# Altium schematic symbol library MCU_Texas_MSP430.SchLib: 361 symbols (part 7 of 7)
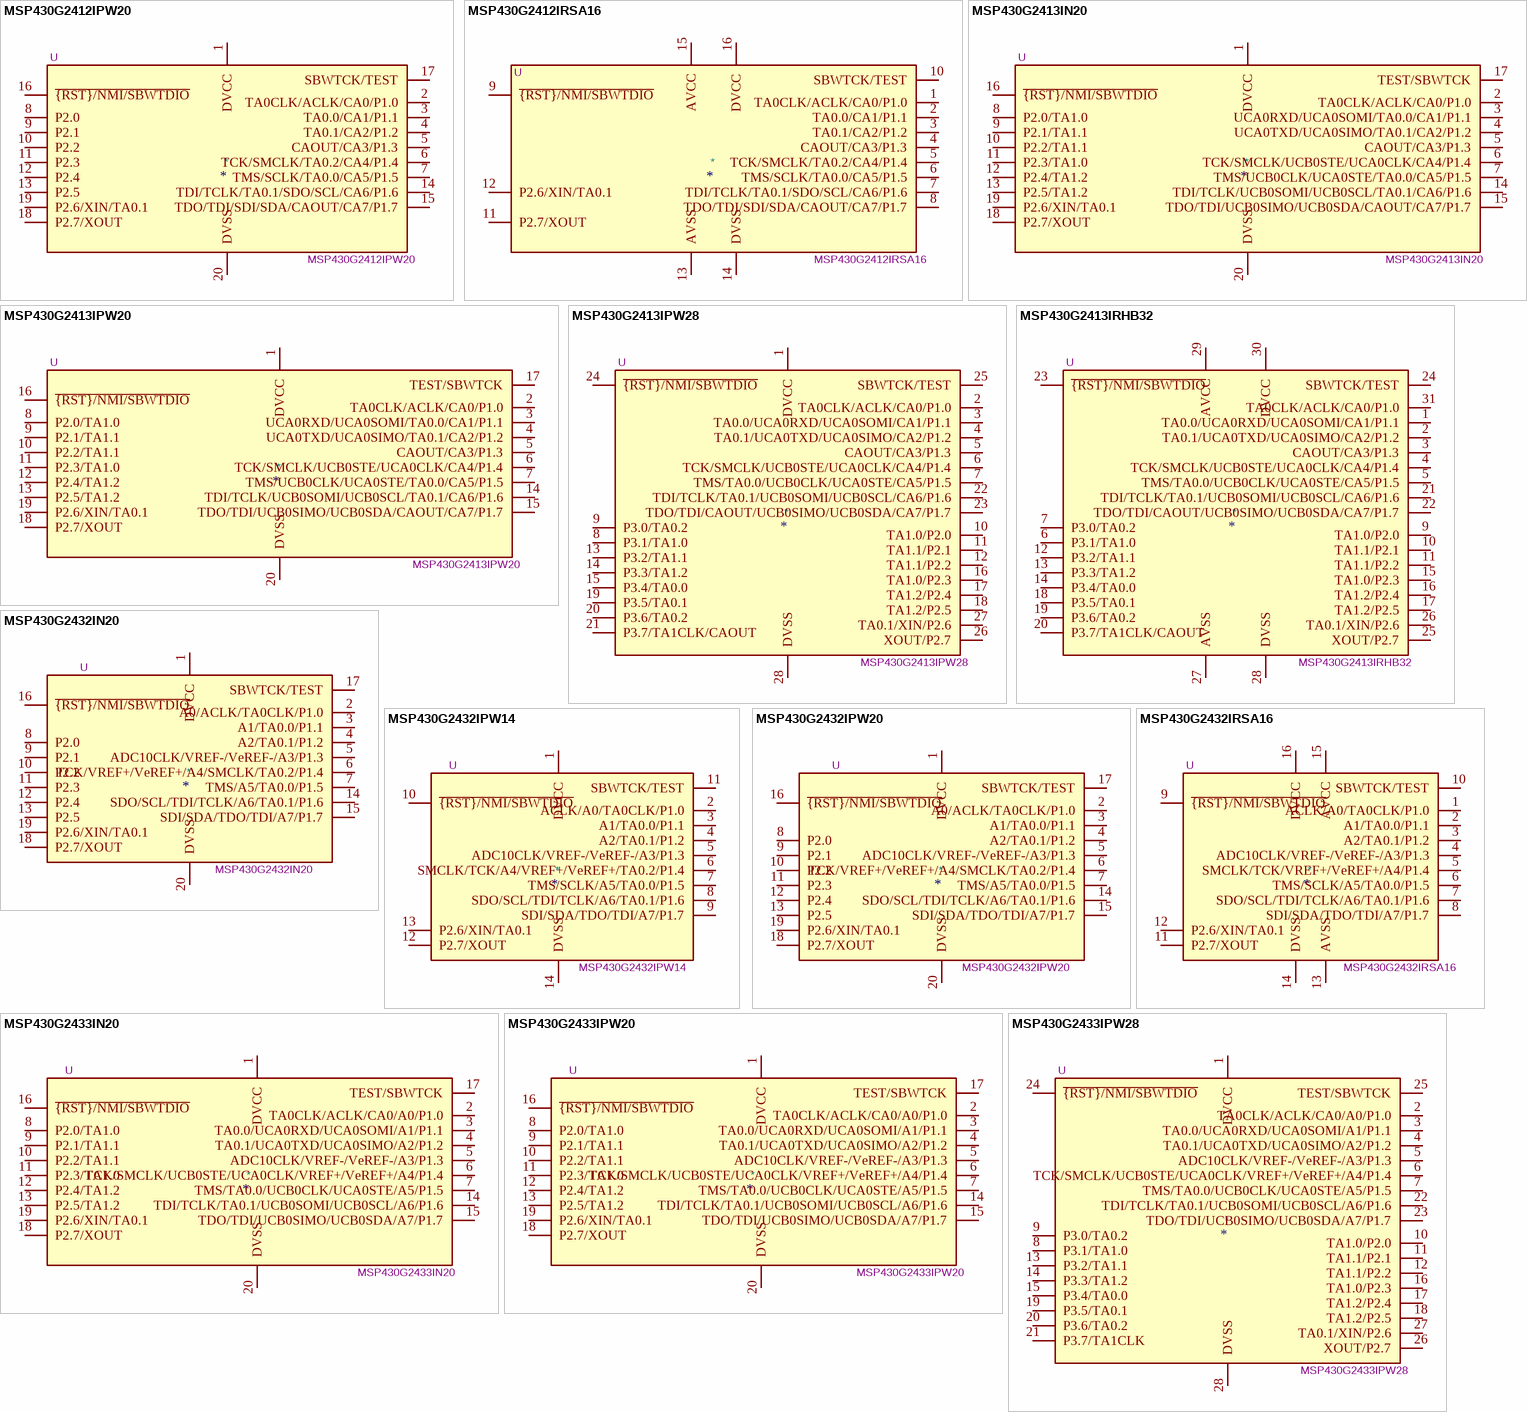
[diagram p40: symbols MSP430G2412IPW20 to MSP430G2433IPW28]

## MSP430G2413IN20
designator *  value MSP430G2413IN20  Reference: U
8kB Flash, 512B RAM, DIP-20; ki_keywords: TI MSP430 16-bit mixed signal microcontroller; ki_fp_filters: DIP*W7.62mm*; Footprint: Package_DIP:DIP-20_W7.62mm; Datasheet: http://www.ti.com/lit/ds/symlink/msp430g2413.pdf; Description_: 8kB Flash, 512B RAM, DIP-20
pins: 1 DVCC, 2 TA0CLK/ACLK/CA0/P1.0, 3 UCA0RXD/UCA0SOMI/TA0.0/CA1/P1.1, 4 UCA0TXD/UCA0SIMO/TA0.1/CA2/P1.2, 5 CAOUT/CA3/P1.3, 6 TCK/SMCLK/UCB0STE/UCA0CLK/CA4/P1.4, 7 TMS/UCB0CLK/UCA0STE/TA0.0/CA5/P1.5, 8 P2.0/TA1.0, 9 P2.1/TA1.1, 10 P2.2/TA1.1, 11 P2.3/TA1.0, 12 P2.4/TA1.2, 13 P2.5/TA1.2, 14 TDI/TCLK/UCB0SOMI/UCB0SCL/TA0.1/CA6/P1.6, 15 TDO/TDI/UCB0SIMO/UCB0SDA/CAOUT/CA7/P1.7, 16 ~{{RST}/NMI/SBWTDIO}, 17 TEST/SBWTCK, 18 P2.7/XOUT, 19 P2.6/XIN/TA0.1, 20 DVSS

## MSP430G2413IPW20
designator *  value MSP430G2413IPW20  Reference: U
8kB Flash, 512B RAM, TSSOP-20; ki_keywords: TI MSP430 16-bit mixed signal microcontroller; ki_fp_filters: TSSOP*4.4x6.5mm*P0.65mm*; Footprint: Package_SO:TSSOP-20_4.4x6.5mm_P0.65mm; Datasheet: http://www.ti.com/lit/ds/symlink/msp430g2413.pdf; Description_: 8kB Flash, 512B RAM, TSSOP-20
pins: 1 DVCC, 2 TA0CLK/ACLK/CA0/P1.0, 3 UCA0RXD/UCA0SOMI/TA0.0/CA1/P1.1, 4 UCA0TXD/UCA0SIMO/TA0.1/CA2/P1.2, 5 CAOUT/CA3/P1.3, 6 TCK/SMCLK/UCB0STE/UCA0CLK/CA4/P1.4, 7 TMS/UCB0CLK/UCA0STE/TA0.0/CA5/P1.5, 8 P2.0/TA1.0, 9 P2.1/TA1.1, 10 P2.2/TA1.1, 11 P2.3/TA1.0, 12 P2.4/TA1.2, 13 P2.5/TA1.2, 14 TDI/TCLK/UCB0SOMI/UCB0SCL/TA0.1/CA6/P1.6, 15 TDO/TDI/UCB0SIMO/UCB0SDA/CAOUT/CA7/P1.7, 16 ~{{RST}/NMI/SBWTDIO}, 17 TEST/SBWTCK, 18 P2.7/XOUT, 19 P2.6/XIN/TA0.1, 20 DVSS

## MSP430G2413IPW28
designator *  value MSP430G2413IPW28  Reference: U
8kB Flash, 512B RAM, TSSOP-28; ki_keywords: TI MSP430 16-bit mixed signal microcontroller; ki_fp_filters: TSSOP*4.4x9.7mm*P0.65mm*; Footprint: Package_SO:TSSOP-28_4.4x9.7mm_P0.65mm; Datasheet: http://www.ti.com/lit/ds/symlink/msp430g2413.pdf; Description_: 8kB Flash, 512B RAM, TSSOP-28
pins: 1 DVCC, 2 TA0CLK/ACLK/CA0/P1.0, 3 TA0.0/UCA0RXD/UCA0SOMI/CA1/P1.1, 4 TA0.1/UCA0TXD/UCA0SIMO/CA2/P1.2, 5 CAOUT/CA3/P1.3, 6 TCK/SMCLK/UCB0STE/UCA0CLK/CA4/P1.4, 7 TMS/TA0.0/UCB0CLK/UCA0STE/CA5/P1.5, 8 P3.1/TA1.0, 9 P3.0/TA0.2, 10 TA1.0/P2.0, 11 TA1.1/P2.1, 12 TA1.1/P2.2, 13 P3.2/TA1.1, 14 P3.3/TA1.2, 15 P3.4/TA0.0, 16 TA1.0/P2.3, 17 TA1.2/P2.4, 18 TA1.2/P2.5, 19 P3.5/TA0.1, 20 P3.6/TA0.2, 21 P3.7/TA1CLK/CAOUT, 22 TDI/TCLK/TA0.1/UCB0SOMI/UCB0SCL/CA6/P1.6, 23 TDO/TDI/CAOUT/UCB0SIMO/UCB0SDA/CA7/P1.7, 24 ~{{RST}/NMI/SBWTDIO}, 25 SBWTCK/TEST, 26 XOUT/P2.7, 27 TA0.1/XIN/P2.6, 28 DVSS

## MSP430G2413IRHB32
designator *  value MSP430G2413IRHB32  Reference: U
8kB Flash, 512B RAM, QFN-32; ki_keywords: TI MSP430 16-bit mixed signal microcontroller; ki_fp_filters: Texas*VQFN*1EP*5x5mm*P0.5mm*; Footprint: Package_DFN_QFN:Texas_RHB0032E_VQFN-32-1EP_5x5mm_P0.5mm_EP3.45x3.45mm; Datasheet: http://www.ti.com/lit/ds/symlink/msp430g2413.pdf; Description_: 8kB Flash, 512B RAM, QFN-32
pins: 1 TA0.0/UCA0RXD/UCA0SOMI/CA1/P1.1, 2 TA0.1/UCA0TXD/UCA0SIMO/CA2/P1.2, 3 CAOUT/CA3/P1.3, 4 TCK/SMCLK/UCB0STE/UCA0CLK/CA4/P1.4, 5 TMS/TA0.0/UCB0CLK/UCA0STE/CA5/P1.5, 6 P3.1/TA1.0, 7 P3.0/TA0.2, 9 TA1.0/P2.0, 10 TA1.1/P2.1, 11 TA1.1/P2.2, 12 P3.2/TA1.1, 13 P3.3/TA1.2, 14 P3.4/TA0.0, 15 TA1.0/P2.3, 16 TA1.2/P2.4, 17 TA1.2/P2.5, 18 P3.5/TA0.1, 19 P3.6/TA0.2, 20 P3.7/TA1CLK/CAOUT, 21 TDI/TCLK/TA0.1/UCB0SOMI/UCB0SCL/CA6/P1.6, 22 TDO/TDI/CAOUT/UCB0SIMO/UCB0SDA/CA7/P1.7, 23 ~{{RST}/NMI/SBWTDIO}, 24 SBWTCK/TEST, 25 XOUT/P2.7, 26 TA0.1/XIN/P2.6, 27 AVSS, 28 DVSS, 29 AVCC, 30 DVCC, 31 TA0CLK/ACLK/CA0/P1.0

## MSP430G2432IN20
designator *  value MSP430G2432IN20  Reference: U
8kB Flash, 256B RAM, DIP-20; ki_keywords: TI MSP430 16-bit mixed signal microcontroller; ki_fp_filters: DIP*W7.62mm*; Footprint: Package_DIP:DIP-20_W7.62mm; Datasheet: http://www.ti.com/lit/ds/symlink/msp430g2432.pdf; Description_: 8kB Flash, 256B RAM, DIP-20
pins: 1 DVCC, 2 A0/ACLK/TA0CLK/P1.0, 3 A1/TA0.0/P1.1, 4 A2/TA0.1/P1.2, 5 ADC10CLK/VREF-/VeREF-/A3/P1.3, 6 TCK/VREF+/VeREF+/A4/SMCLK/TA0.2/P1.4, 7 TMS/A5/TA0.0/P1.5, 8 P2.0, 9 P2.1, 10 P2.2, 11 P2.3, 12 P2.4, 13 P2.5, 14 SDO/SCL/TDI/TCLK/A6/TA0.1/P1.6, 15 SDI/SDA/TDO/TDI/A7/P1.7, 16 ~{{RST}/NMI/SBWTDIO}, 17 SBWTCK/TEST, 18 P2.7/XOUT, 19 P2.6/XIN/TA0.1, 20 DVSS

## MSP430G2432IPW14
designator *  value MSP430G2432IPW14  Reference: U
8kB Flash, 256B RAM, TSSOP-14; ki_keywords: TI MSP430 16-bit mixed signal microcontroller; ki_fp_filters: TSSOP*4.4x5mm*P0.65mm*; Footprint: Package_SO:TSSOP-14_4.4x5mm_P0.65mm; Datasheet: http://www.ti.com/lit/ds/symlink/msp430g2432.pdf; Description_: 8kB Flash, 256B RAM, TSSOP-14
pins: 1 DVCC, 2 ACLK/A0/TA0CLK/P1.0, 3 A1/TA0.0/P1.1, 4 A2/TA0.1/P1.2, 5 ADC10CLK/VREF-/VeREF-/A3/P1.3, 6 SMCLK/TCK/A4/VREF+/VeREF+/TA0.2/P1.4, 7 TMS/SCLK/A5/TA0.0/P1.5, 8 SDO/SCL/TDI/TCLK/A6/TA0.1/P1.6, 9 SDI/SDA/TDO/TDI/A7/P1.7, 10 ~{{RST}/NMI/SBWTDIO}, 11 SBWTCK/TEST, 12 P2.7/XOUT, 13 P2.6/XIN/TA0.1, 14 DVSS

## MSP430G2432IPW20
designator *  value MSP430G2432IPW20  Reference: U
8kB Flash, 256B RAM, TSSOP-20; ki_keywords: TI MSP430 16-bit mixed signal microcontroller; ki_fp_filters: TSSOP*4.4x6.5mm*P0.65mm*; Footprint: Package_SO:TSSOP-20_4.4x6.5mm_P0.65mm; Datasheet: http://www.ti.com/lit/ds/symlink/msp430g2432.pdf; Description_: 8kB Flash, 256B RAM, TSSOP-20
pins: 1 DVCC, 2 A0/ACLK/TA0CLK/P1.0, 3 A1/TA0.0/P1.1, 4 A2/TA0.1/P1.2, 5 ADC10CLK/VREF-/VeREF-/A3/P1.3, 6 TCK/VREF+/VeREF+/A4/SMCLK/TA0.2/P1.4, 7 TMS/A5/TA0.0/P1.5, 8 P2.0, 9 P2.1, 10 P2.2, 11 P2.3, 12 P2.4, 13 P2.5, 14 SDO/SCL/TDI/TCLK/A6/TA0.1/P1.6, 15 SDI/SDA/TDO/TDI/A7/P1.7, 16 ~{{RST}/NMI/SBWTDIO}, 17 SBWTCK/TEST, 18 P2.7/XOUT, 19 P2.6/XIN/TA0.1, 20 DVSS

## MSP430G2432IRSA16
designator *  value MSP430G2432IRSA16  Reference: U
8kB Flash, 256B RAM, QFN-16; ki_keywords: TI MSP430 16-bit mixed signal microcontroller; ki_fp_filters: Texas*RSA*EP2.7x2.7mm*; Footprint: Package_DFN_QFN:Texas_RSA_VQFN-16-1EP_4x4mm_P0.65mm_EP2.7x2.7mm; Datasheet: http://www.ti.com/lit/ds/symlink/msp430g2432.pdf; Description_: 8kB Flash, 256B RAM, QFN-16
pins: 1 ACLK/A0/TA0CLK/P1.0, 2 A1/TA0.0/P1.1, 3 A2/TA0.1/P1.2, 4 ADC10CLK/VREF-/VeREF-/A3/P1.3, 5 SMCLK/TCK/VREF+/VeREF+/A4/P1.4, 6 TMS/SCLK/A5/TA0.0/P1.5, 7 SDO/SCL/TDI/TCLK/A6/TA0.1/P1.6, 8 SDI/SDA/TDO/TDI/A7/P1.7, 9 ~{{RST}/NMI/SBWTDIO}, 10 SBWTCK/TEST, 11 P2.7/XOUT, 12 P2.6/XIN/TA0.1, 13 AVSS, 14 DVSS, 15 AVCC, 16 DVCC

## MSP430G2433IN20
designator *  value MSP430G2433IN20  Reference: U
8kB Flash, 512B RAM, DIP-20; ki_keywords: TI MSP430 16-bit mixed signal microcontroller; ki_fp_filters: DIP*W7.62mm*; Footprint: Package_DIP:DIP-20_W7.62mm; Datasheet: http://www.ti.com/lit/ds/symlink/msp430g2433.pdf; Description_: 8kB Flash, 512B RAM, DIP-20
pins: 1 DVCC, 2 TA0CLK/ACLK/CA0/A0/P1.0, 3 TA0.0/UCA0RXD/UCA0SOMI/A1/P1.1, 4 TA0.1/UCA0TXD/UCA0SIMO/A2/P1.2, 5 ADC10CLK/VREF-/VeREF-/A3/P1.3, 6 TCK/SMCLK/UCB0STE/UCA0CLK/VREF+/VeREF+/A4/P1.4, 7 TMS/TA0.0/UCB0CLK/UCA0STE/A5/P1.5, 8 P2.0/TA1.0, 9 P2.1/TA1.1, 10 P2.2/TA1.1, 11 P2.3/TA1.0, 12 P2.4/TA1.2, 13 P2.5/TA1.2, 14 TDI/TCLK/TA0.1/UCB0SOMI/UCB0SCL/A6/P1.6, 15 TDO/TDI/UCB0SIMO/UCB0SDA/A7/P1.7, 16 ~{{RST}/NMI/SBWTDIO}, 17 TEST/SBWTCK, 18 P2.7/XOUT, 19 P2.6/XIN/TA0.1, 20 DVSS

## MSP430G2433IPW20
designator *  value MSP430G2433IPW20  Reference: U
8kB Flash, 512B RAM, TSSOP-20; ki_keywords: TI MSP430 16-bit mixed signal microcontroller; ki_fp_filters: TSSOP*4.4x6.5mm*P0.65mm*; Footprint: Package_SO:TSSOP-20_4.4x6.5mm_P0.65mm; Datasheet: http://www.ti.com/lit/ds/symlink/msp430g2433.pdf; Description_: 8kB Flash, 512B RAM, TSSOP-20
pins: 1 DVCC, 2 TA0CLK/ACLK/CA0/A0/P1.0, 3 TA0.0/UCA0RXD/UCA0SOMI/A1/P1.1, 4 TA0.1/UCA0TXD/UCA0SIMO/A2/P1.2, 5 ADC10CLK/VREF-/VeREF-/A3/P1.3, 6 TCK/SMCLK/UCB0STE/UCA0CLK/VREF+/VeREF+/A4/P1.4, 7 TMS/TA0.0/UCB0CLK/UCA0STE/A5/P1.5, 8 P2.0/TA1.0, 9 P2.1/TA1.1, 10 P2.2/TA1.1, 11 P2.3/TA1.0, 12 P2.4/TA1.2, 13 P2.5/TA1.2, 14 TDI/TCLK/TA0.1/UCB0SOMI/UCB0SCL/A6/P1.6, 15 TDO/TDI/UCB0SIMO/UCB0SDA/A7/P1.7, 16 ~{{RST}/NMI/SBWTDIO}, 17 TEST/SBWTCK, 18 P2.7/XOUT, 19 P2.6/XIN/TA0.1, 20 DVSS

## MSP430G2433IPW28
designator *  value MSP430G2433IPW28  Reference: U
8kB Flash, 512B RAM, TSSOP-28; ki_keywords: TI MSP430 16-bit mixed signal microcontroller; ki_fp_filters: TSSOP*4.4x9.7mm*P0.65mm*; Footprint: Package_SO:TSSOP-28_4.4x9.7mm_P0.65mm; Datasheet: http://www.ti.com/lit/ds/symlink/msp430g2433.pdf; Description_: 8kB Flash, 512B RAM, TSSOP-28
pins: 1 DVCC, 2 TA0CLK/ACLK/CA0/A0/P1.0, 3 TA0.0/UCA0RXD/UCA0SOMI/A1/P1.1, 4 TA0.1/UCA0TXD/UCA0SIMO/A2/P1.2, 5 ADC10CLK/VREF-/VeREF-/A3/P1.3, 6 TCK/SMCLK/UCB0STE/UCA0CLK/VREF+/VeREF+/A4/P1.4, 7 TMS/TA0.0/UCB0CLK/UCA0STE/A5/P1.5, 8 P3.1/TA1.0, 9 P3.0/TA0.2, 10 TA1.0/P2.0, 11 TA1.1/P2.1, 12 TA1.1/P2.2, 13 P3.2/TA1.1, 14 P3.3/TA1.2, 15 P3.4/TA0.0, 16 TA1.0/P2.3, 17 TA1.2/P2.4, 18 TA1.2/P2.5, 19 P3.5/TA0.1, 20 P3.6/TA0.2, 21 P3.7/TA1CLK, 22 TDI/TCLK/TA0.1/UCB0SOMI/UCB0SCL/A6/P1.6, 23 TDO/TDI/UCB0SIMO/UCB0SDA/A7/P1.7, 24 ~{{RST}/NMI/SBWTDIO}, 25 TEST/SBWTCK, 26 XOUT/P2.7, 27 TA0.1/XIN/P2.6, 28 DVSS

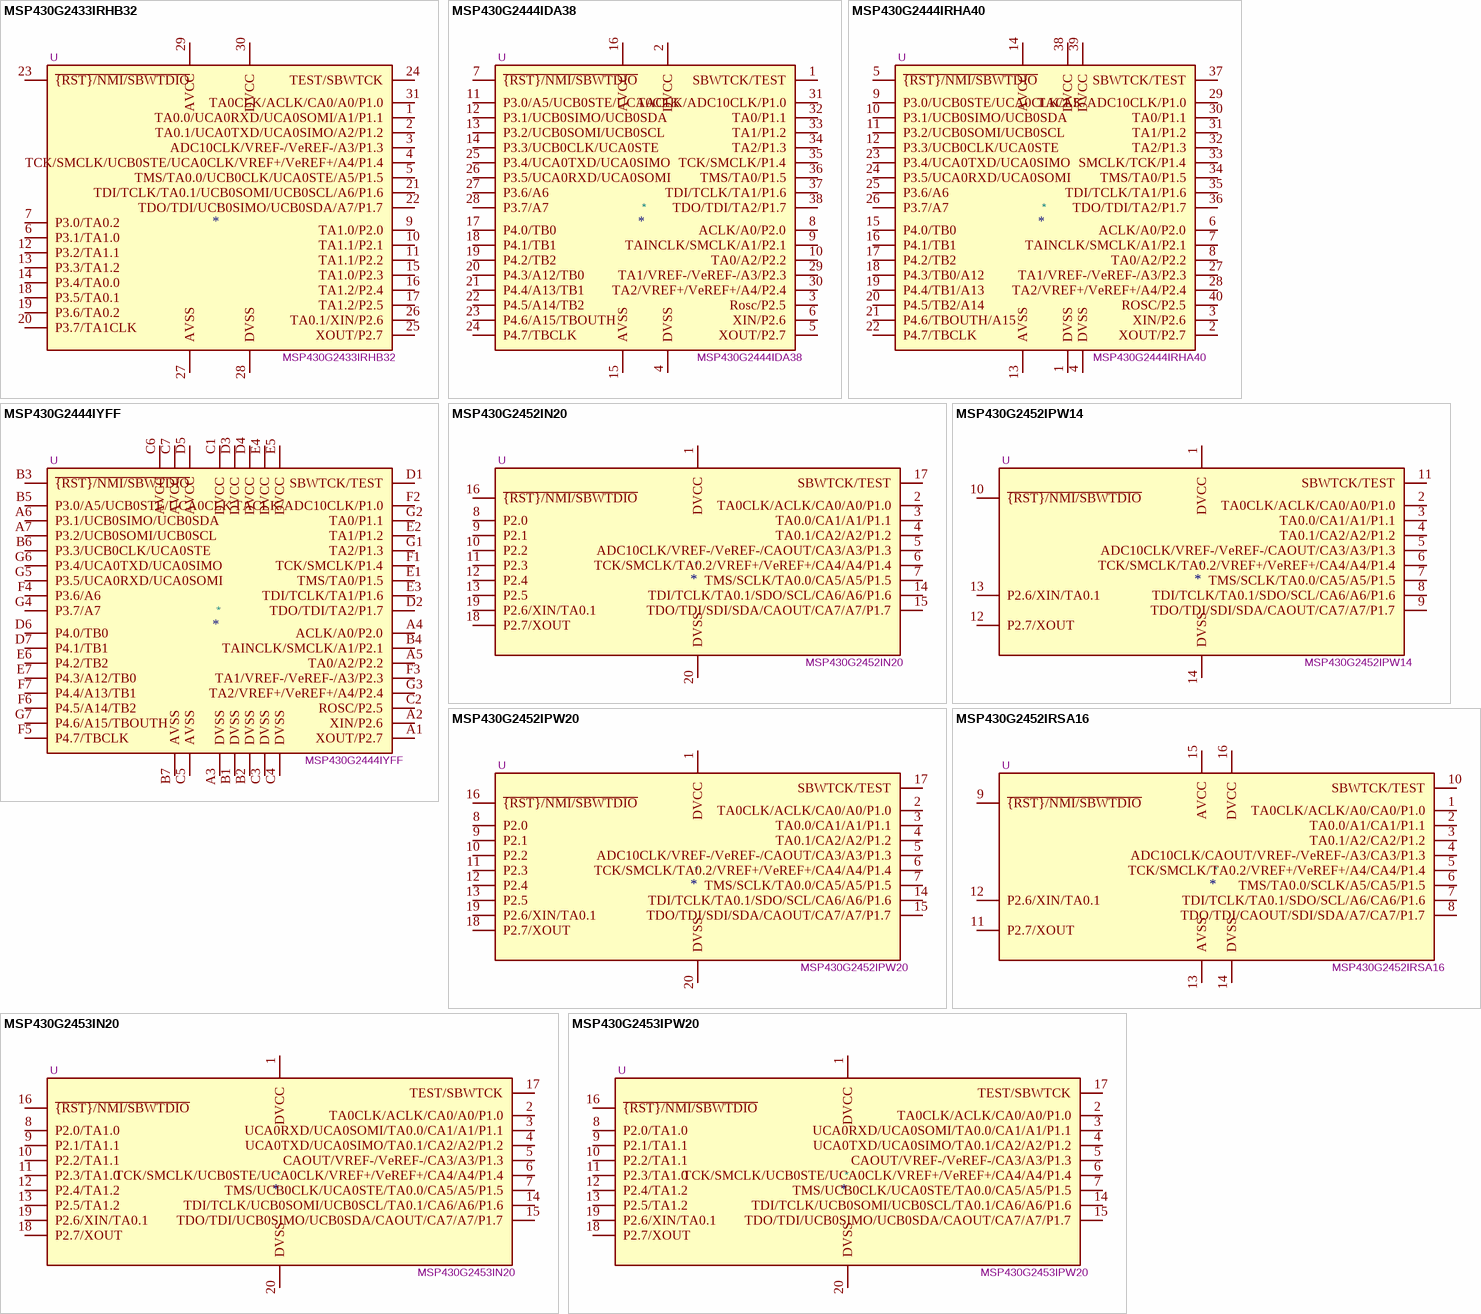
[diagram p31: symbols MSP430G2433IRHB32 to MSP430G2453IPW20]

## MSP430G2433IRHB32
designator *  value MSP430G2433IRHB32  Reference: U
8kB Flash, 512B RAM, QFN-32; ki_keywords: TI MSP430 16-bit mixed signal microcontroller; ki_fp_filters: Texas*VQFN*1EP*5x5mm*P0.5mm*; Footprint: Package_DFN_QFN:Texas_RHB0032E_VQFN-32-1EP_5x5mm_P0.5mm_EP3.45x3.45mm; Datasheet: http://www.ti.com/lit/ds/symlink/msp430g2433.pdf; Description_: 8kB Flash, 512B RAM, QFN-32
pins: 1 TA0.0/UCA0RXD/UCA0SOMI/A1/P1.1, 2 TA0.1/UCA0TXD/UCA0SIMO/A2/P1.2, 3 ADC10CLK/VREF-/VeREF-/A3/P1.3, 4 TCK/SMCLK/UCB0STE/UCA0CLK/VREF+/VeREF+/A4/P1.4, 5 TMS/TA0.0/UCB0CLK/UCA0STE/A5/P1.5, 6 P3.1/TA1.0, 7 P3.0/TA0.2, 9 TA1.0/P2.0, 10 TA1.1/P2.1, 11 TA1.1/P2.2, 12 P3.2/TA1.1, 13 P3.3/TA1.2, 14 P3.4/TA0.0, 15 TA1.0/P2.3, 16 TA1.2/P2.4, 17 TA1.2/P2.5, 18 P3.5/TA0.1, 19 P3.6/TA0.2, 20 P3.7/TA1CLK, 21 TDI/TCLK/TA0.1/UCB0SOMI/UCB0SCL/A6/P1.6, 22 TDO/TDI/UCB0SIMO/UCB0SDA/A7/P1.7, 23 ~{{RST}/NMI/SBWTDIO}, 24 TEST/SBWTCK, 25 XOUT/P2.7, 26 TA0.1/XIN/P2.6, 27 AVSS, 28 DVSS, 29 AVCC, 30 DVCC, 31 TA0CLK/ACLK/CA0/A0/P1.0

## MSP430G2444IDA38
designator *  value MSP430G2444IDA38  Reference: U
8kB + 256B Flash, 512B RAM, TSSOP-38; ki_keywords: TI MSP430 16-bit mixed signal microcontroller; ki_fp_filters: TSSOP*6.1x12.5mm*P0.65mm*; Footprint: Package_SO:TSSOP-38_6.1x12.5mm_P0.65mm; Datasheet: http://www.ti.com/lit/ds/symlink/msp430g2444.pdf; Description_: 8kB + 256B Flash, 512B RAM, TSSOP-38
pins: 1 SBWTCK/TEST, 2 DVCC, 3 Rosc/P2.5, 4 DVSS, 5 XOUT/P2.7, 6 XIN/P2.6, 7 ~{{RST}/NMI/SBWTDIO}, 8 ACLK/A0/P2.0, 9 TAINCLK/SMCLK/A1/P2.1, 10 TA0/A2/P2.2, 11 P3.0/A5/UCB0STE/UCA0CLK, 12 P3.1/UCB0SIMO/UCB0SDA, 13 P3.2/UCB0SOMI/UCB0SCL, 14 P3.3/UCB0CLK/UCA0STE, 15 AVSS, 16 AVCC, 17 P4.0/TB0, 18 P4.1/TB1, 19 P4.2/TB2, 20 P4.3/A12/TB0, 21 P4.4/A13/TB1, 22 P4.5/A14/TB2, 23 P4.6/A15/TBOUTH, 24 P4.7/TBCLK, 25 P3.4/UCA0TXD/UCA0SIMO, 26 P3.5/UCA0RXD/UCA0SOMI, 27 P3.6/A6, 28 P3.7/A7, 29 TA1/VREF-/VeREF-/A3/P2.3, 30 TA2/VREF+/VeREF+/A4/P2.4, 31 TACLK/ADC10CLK/P1.0, 32 TA0/P1.1, 33 TA1/P1.2, 34 TA2/P1.3, 35 TCK/SMCLK/P1.4, 36 TMS/TA0/P1.5, 37 TDI/TCLK/TA1/P1.6, 38 TDO/TDI/TA2/P1.7

## MSP430G2444IRHA40
designator *  value MSP430G2444IRHA40  Reference: U
8kB + 256B Flash, 512B RAM, QFN-40; ki_keywords: TI MSP430 16-bit mixed signal microcontroller; ki_fp_filters: Texas*RHA0040B*; Footprint: Package_DFN_QFN:Texas_RHA0040B_VQFN-40-1EP_6x6mm_P0.5mm_EP4.15x4.15mm; Datasheet: http://www.ti.com/lit/ds/symlink/msp430g2444.pdf; Description_: 8kB + 256B Flash, 512B RAM, QFN-40
pins: 1 DVSS, 2 XOUT/P2.7, 3 XIN/P2.6, 4 DVSS, 5 ~{{RST}/NMI/SBWTDIO}, 6 ACLK/A0/P2.0, 7 TAINCLK/SMCLK/A1/P2.1, 8 TA0/A2/P2.2, 9 P3.0/UCB0STE/UCA0CLK/A5, 10 P3.1/UCB0SIMO/UCB0SDA, 11 P3.2/UCB0SOMI/UCB0SCL, 12 P3.3/UCB0CLK/UCA0STE, 13 AVSS, 14 AVCC, 15 P4.0/TB0, 16 P4.1/TB1, 17 P4.2/TB2, 18 P4.3/TB0/A12, 19 P4.4/TB1/A13, 20 P4.5/TB2/A14, 21 P4.6/TBOUTH/A15, 22 P4.7/TBCLK, 23 P3.4/UCA0TXD/UCA0SIMO, 24 P3.5/UCA0RXD/UCA0SOMI, 25 P3.6/A6, 26 P3.7/A7, 27 TA1/VREF-/VeREF-/A3/P2.3, 28 TA2/VREF+/VeREF+/A4/P2.4, 29 TACLK/ADC10CLK/P1.0, 30 TA0/P1.1, 31 TA1/P1.2, 32 TA2/P1.3, 33 SMCLK/TCK/P1.4, 34 TMS/TA0/P1.5, 35 TDI/TCLK/TA1/P1.6, 36 TDO/TDI/TA2/P1.7, 37 SBWTCK/TEST, 38 DVCC, 39 DVCC, 40 ROSC/P2.5

## MSP430G2444IYFF
designator *  value MSP430G2444IYFF  Reference: U
8kB + 256B Flash, 512B RAM, BGA-49; ki_keywords: TI MSP430 16-bit mixed signal microcontroller; ki_fp_filters: Texas*DSBGA*3.33x3.488mm*Layout7x7*P0.4mm*; Footprint: Package_BGA:Texas_DSBGA-49_3.33x3.488mm_Layout7x7_P0.4mm; Datasheet: http://www.ti.com/lit/ds/symlink/msp430g2444.pdf; Description_: 8kB + 256B Flash, 512B RAM, BGA-49
pins: A1 XOUT/P2.7, A2 XIN/P2.6, A3 DVSS, A4 ACLK/A0/P2.0, A5 TA0/A2/P2.2, A6 P3.1/UCB0SIMO/UCB0SDA, A7 P3.2/UCB0SOMI/UCB0SCL, B1 DVSS, B2 DVSS, B3 ~{{RST}/NMI/SBWTDIO}, B4 TAINCLK/SMCLK/A1/P2.1, B5 P3.0/A5/UCB0STE/UCA0CLK, B6 P3.3/UCB0CLK/UCA0STE, B7 AVSS, C1 DVCC, C2 ROSC/P2.5, C3 DVSS, C4 DVSS, C5 AVSS, C6 AVCC, C7 AVCC, D1 SBWTCK/TEST, D2 TDO/TDI/TA2/P1.7, D3 DVCC, D4 DVCC, D5 AVCC, D6 P4.0/TB0, D7 P4.1/TB1, E1 TMS/TA0/P1.5, E2 TA1/P1.2, E3 TDI/TCLK/TA1/P1.6, E4 DVCC, E5 DVCC, E6 P4.2/TB2, E7 P4.3/A12/TB0, F1 TCK/SMCLK/P1.4, F2 TACLK/ADC10CLK/P1.0, F3 TA1/VREF-/VeREF-/A3/P2.3, F4 P3.6/A6, F5 P4.7/TBCLK, F6 P4.5/A14/TB2, F7 P4.4/A13/TB1, G1 TA2/P1.3, G2 TA0/P1.1, G3 TA2/VREF+/VeREF+/A4/P2.4, G4 P3.7/A7, G5 P3.5/UCA0RXD/UCA0SOMI, G6 P3.4/UCA0TXD/UCA0SIMO, G7 P4.6/A15/TBOUTH

## MSP430G2452IN20
designator *  value MSP430G2452IN20  Reference: U
8kB Flash, 256B RAM, DIP-20; ki_keywords: TI MSP430 16-bit mixed signal microcontroller; ki_fp_filters: DIP*W7.62mm*; Footprint: Package_DIP:DIP-20_W7.62mm; Datasheet: http://www.ti.com/lit/ds/symlink/msp430g2452.pdf; Description_: 8kB Flash, 256B RAM, DIP-20
pins: 1 DVCC, 2 TA0CLK/ACLK/CA0/A0/P1.0, 3 TA0.0/CA1/A1/P1.1, 4 TA0.1/CA2/A2/P1.2, 5 ADC10CLK/VREF-/VeREF-/CAOUT/CA3/A3/P1.3, 6 TCK/SMCLK/TA0.2/VREF+/VeREF+/CA4/A4/P1.4, 7 TMS/SCLK/TA0.0/CA5/A5/P1.5, 8 P2.0, 9 P2.1, 10 P2.2, 11 P2.3, 12 P2.4, 13 P2.5, 14 TDI/TCLK/TA0.1/SDO/SCL/CA6/A6/P1.6, 15 TDO/TDI/SDI/SDA/CAOUT/CA7/A7/P1.7, 16 ~{{RST}/NMI/SBWTDIO}, 17 SBWTCK/TEST, 18 P2.7/XOUT, 19 P2.6/XIN/TA0.1, 20 DVSS

## MSP430G2452IPW14
designator *  value MSP430G2452IPW14  Reference: U
8kB Flash, 256B RAM, TSSOP-14; ki_keywords: TI MSP430 16-bit mixed signal microcontroller; ki_fp_filters: TSSOP*4.4x5mm*P0.65mm*; Footprint: Package_SO:TSSOP-14_4.4x5mm_P0.65mm; Datasheet: http://www.ti.com/lit/ds/symlink/msp430g2452.pdf; Description_: 8kB Flash, 256B RAM, TSSOP-14
pins: 1 DVCC, 2 TA0CLK/ACLK/CA0/A0/P1.0, 3 TA0.0/CA1/A1/P1.1, 4 TA0.1/CA2/A2/P1.2, 5 ADC10CLK/VREF-/VeREF-/CAOUT/CA3/A3/P1.3, 6 TCK/SMCLK/TA0.2/VREF+/VeREF+/CA4/A4/P1.4, 7 TMS/SCLK/TA0.0/CA5/A5/P1.5, 8 TDI/TCLK/TA0.1/SDO/SCL/CA6/A6/P1.6, 9 TDO/TDI/SDI/SDA/CAOUT/CA7/A7/P1.7, 10 ~{{RST}/NMI/SBWTDIO}, 11 SBWTCK/TEST, 12 P2.7/XOUT, 13 P2.6/XIN/TA0.1, 14 DVSS

## MSP430G2452IPW20
designator *  value MSP430G2452IPW20  Reference: U
8kB Flash, 256B RAM, TSSOP-20; ki_keywords: TI MSP430 16-bit mixed signal microcontroller; ki_fp_filters: TSSOP*4.4x6.5mm*P0.65mm*; Footprint: Package_SO:TSSOP-20_4.4x6.5mm_P0.65mm; Datasheet: http://www.ti.com/lit/ds/symlink/msp430g2452.pdf; Description_: 8kB Flash, 256B RAM, TSSOP-20
pins: 1 DVCC, 2 TA0CLK/ACLK/CA0/A0/P1.0, 3 TA0.0/CA1/A1/P1.1, 4 TA0.1/CA2/A2/P1.2, 5 ADC10CLK/VREF-/VeREF-/CAOUT/CA3/A3/P1.3, 6 TCK/SMCLK/TA0.2/VREF+/VeREF+/CA4/A4/P1.4, 7 TMS/SCLK/TA0.0/CA5/A5/P1.5, 8 P2.0, 9 P2.1, 10 P2.2, 11 P2.3, 12 P2.4, 13 P2.5, 14 TDI/TCLK/TA0.1/SDO/SCL/CA6/A6/P1.6, 15 TDO/TDI/SDI/SDA/CAOUT/CA7/A7/P1.7, 16 ~{{RST}/NMI/SBWTDIO}, 17 SBWTCK/TEST, 18 P2.7/XOUT, 19 P2.6/XIN/TA0.1, 20 DVSS

## MSP430G2452IRSA16
designator *  value MSP430G2452IRSA16  Reference: U
8kB Flash, 256B RAM, QFN-16; ki_keywords: TI MSP430 16-bit mixed signal microcontroller; ki_fp_filters: Texas*RSA*EP2.7x2.7mm*; Footprint: Package_DFN_QFN:Texas_RSA_VQFN-16-1EP_4x4mm_P0.65mm_EP2.7x2.7mm; Datasheet: http://www.ti.com/lit/ds/symlink/msp430g2452.pdf; Description_: 8kB Flash, 256B RAM, QFN-16
pins: 1 TA0CLK/ACLK/A0/CA0/P1.0, 2 TA0.0/A1/CA1/P1.1, 3 TA0.1/A2/CA2/P1.2, 4 ADC10CLK/CAOUT/VREF-/VeREF-/A3/CA3/P1.3, 5 TCK/SMCLK/TA0.2/VREF+/VeREF+/A4/CA4/P1.4, 6 TMS/TA0.0/SCLK/A5/CA5/P1.5, 7 TDI/TCLK/TA0.1/SDO/SCL/A6/CA6/P1.6, 8 TDO/TDI/CAOUT/SDI/SDA/A7/CA7/P1.7, 9 ~{{RST}/NMI/SBWTDIO}, 10 SBWTCK/TEST, 11 P2.7/XOUT, 12 P2.6/XIN/TA0.1, 13 AVSS, 14 DVSS, 15 AVCC, 16 DVCC

## MSP430G2453IN20
designator *  value MSP430G2453IN20  Reference: U
8kB Flash, 512B RAM, DIP-20; ki_keywords: TI MSP430 16-bit mixed signal microcontroller; ki_fp_filters: DIP*W7.62mm*; Footprint: Package_DIP:DIP-20_W7.62mm; Datasheet: http://www.ti.com/lit/ds/symlink/msp430g2453.pdf; Description_: 8kB Flash, 512B RAM, DIP-20
pins: 1 DVCC, 2 TA0CLK/ACLK/CA0/A0/P1.0, 3 UCA0RXD/UCA0SOMI/TA0.0/CA1/A1/P1.1, 4 UCA0TXD/UCA0SIMO/TA0.1/CA2/A2/P1.2, 5 CAOUT/VREF-/VeREF-/CA3/A3/P1.3, 6 TCK/SMCLK/UCB0STE/UCA0CLK/VREF+/VeREF+/CA4/A4/P1.4, 7 TMS/UCB0CLK/UCA0STE/TA0.0/CA5/A5/P1.5, 8 P2.0/TA1.0, 9 P2.1/TA1.1, 10 P2.2/TA1.1, 11 P2.3/TA1.0, 12 P2.4/TA1.2, 13 P2.5/TA1.2, 14 TDI/TCLK/UCB0SOMI/UCB0SCL/TA0.1/CA6/A6/P1.6, 15 TDO/TDI/UCB0SIMO/UCB0SDA/CAOUT/CA7/A7/P1.7, 16 ~{{RST}/NMI/SBWTDIO}, 17 TEST/SBWTCK, 18 P2.7/XOUT, 19 P2.6/XIN/TA0.1, 20 DVSS

## MSP430G2453IPW20
designator *  value MSP430G2453IPW20  Reference: U
8kB Flash, 512B RAM, TSSOP-20; ki_keywords: TI MSP430 16-bit mixed signal microcontroller; ki_fp_filters: TSSOP*4.4x6.5mm*P0.65mm*; Footprint: Package_SO:TSSOP-20_4.4x6.5mm_P0.65mm; Datasheet: http://www.ti.com/lit/ds/symlink/msp430g2453.pdf; Description_: 8kB Flash, 512B RAM, TSSOP-20
pins: 1 DVCC, 2 TA0CLK/ACLK/CA0/A0/P1.0, 3 UCA0RXD/UCA0SOMI/TA0.0/CA1/A1/P1.1, 4 UCA0TXD/UCA0SIMO/TA0.1/CA2/A2/P1.2, 5 CAOUT/VREF-/VeREF-/CA3/A3/P1.3, 6 TCK/SMCLK/UCB0STE/UCA0CLK/VREF+/VeREF+/CA4/A4/P1.4, 7 TMS/UCB0CLK/UCA0STE/TA0.0/CA5/A5/P1.5, 8 P2.0/TA1.0, 9 P2.1/TA1.1, 10 P2.2/TA1.1, 11 P2.3/TA1.0, 12 P2.4/TA1.2, 13 P2.5/TA1.2, 14 TDI/TCLK/UCB0SOMI/UCB0SCL/TA0.1/CA6/A6/P1.6, 15 TDO/TDI/UCB0SIMO/UCB0SDA/CAOUT/CA7/A7/P1.7, 16 ~{{RST}/NMI/SBWTDIO}, 17 TEST/SBWTCK, 18 P2.7/XOUT, 19 P2.6/XIN/TA0.1, 20 DVSS

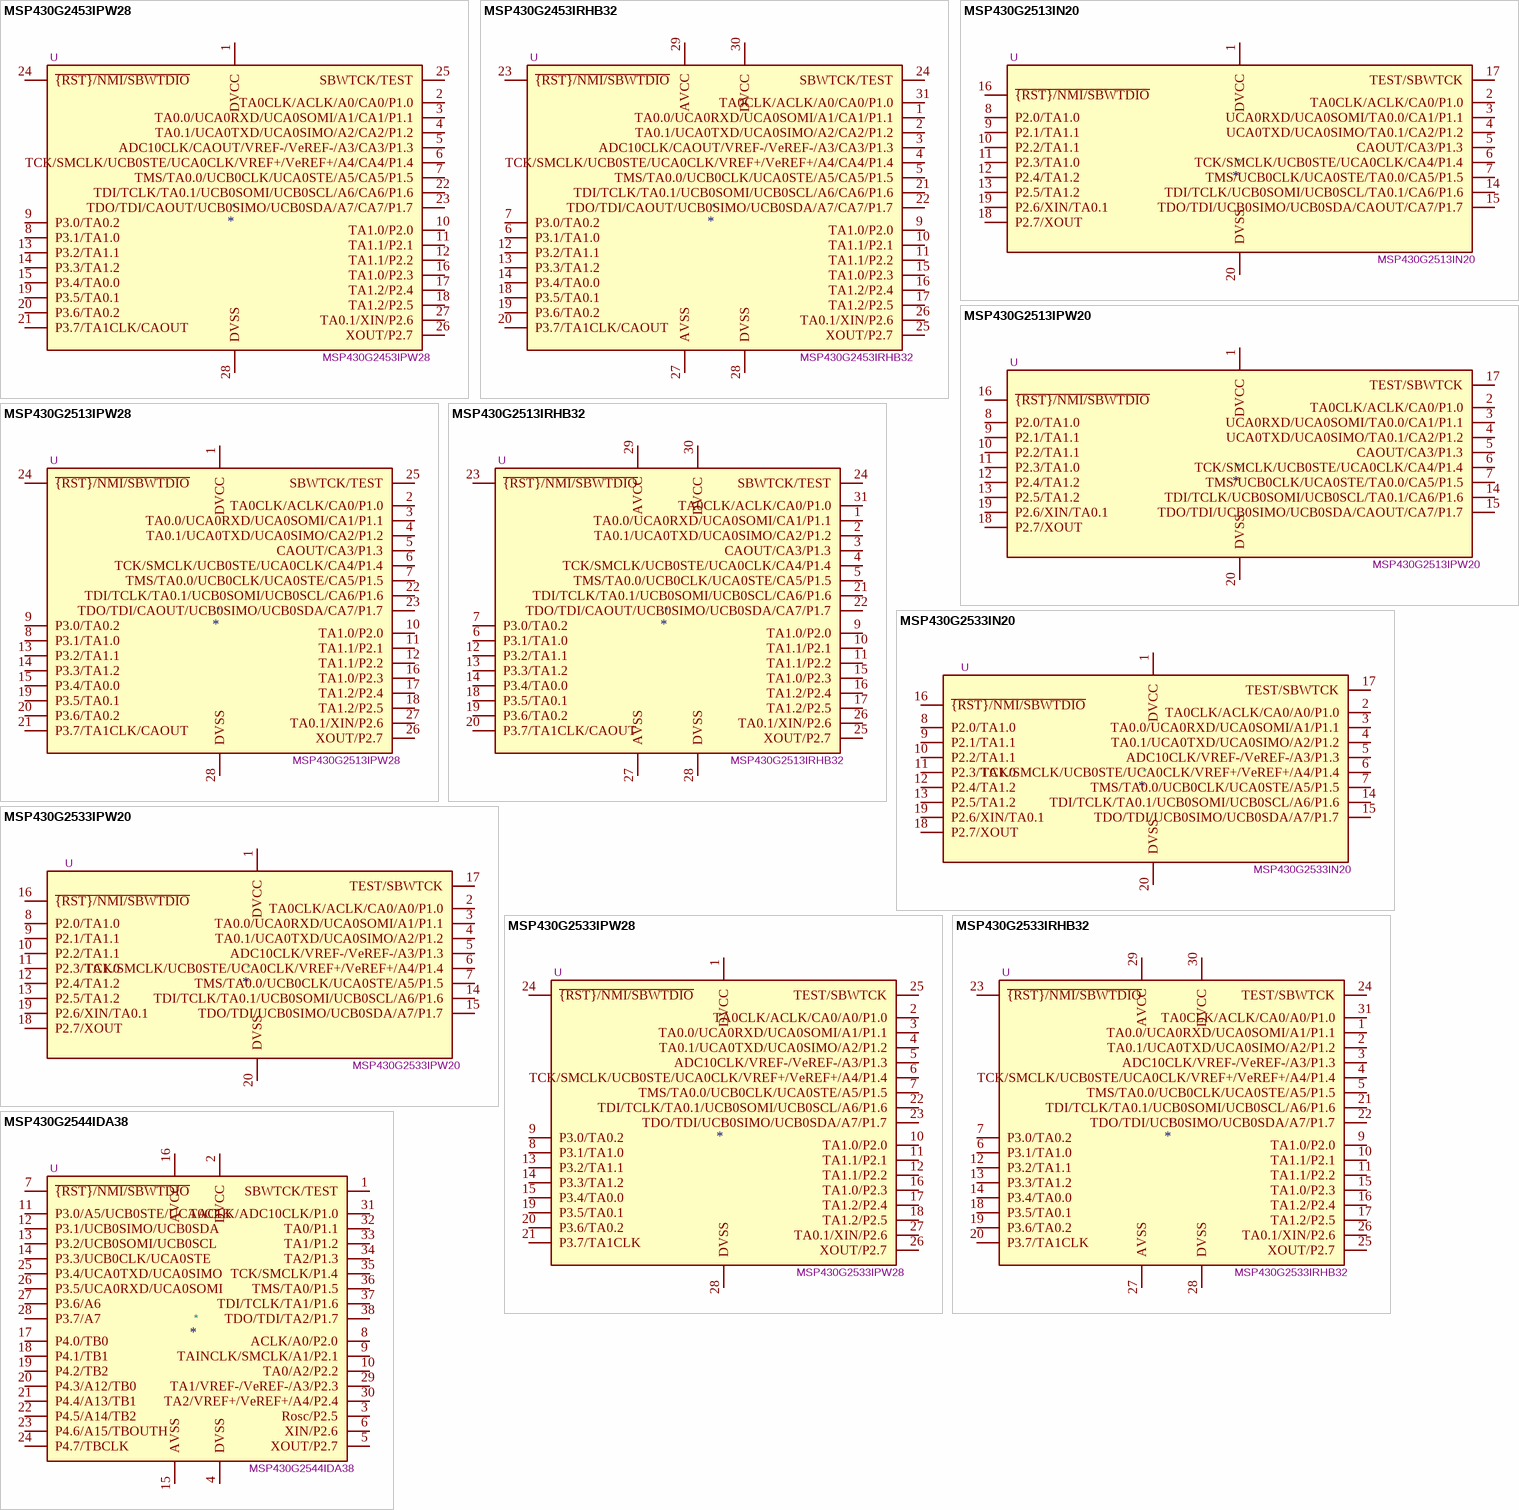
[diagram p32: symbols MSP430G2453IPW28 to MSP430G2544IDA38]

## MSP430G2453IPW28
designator *  value MSP430G2453IPW28  Reference: U
8kB Flash, 512B RAM, TSSOP-28; ki_keywords: TI MSP430 16-bit mixed signal microcontroller; ki_fp_filters: TSSOP*4.4x9.7mm*P0.65mm*; Footprint: Package_SO:TSSOP-28_4.4x9.7mm_P0.65mm; Datasheet: http://www.ti.com/lit/ds/symlink/msp430g2453.pdf; Description_: 8kB Flash, 512B RAM, TSSOP-28
pins: 1 DVCC, 2 TA0CLK/ACLK/A0/CA0/P1.0, 3 TA0.0/UCA0RXD/UCA0SOMI/A1/CA1/P1.1, 4 TA0.1/UCA0TXD/UCA0SIMO/A2/CA2/P1.2, 5 ADC10CLK/CAOUT/VREF-/VeREF-/A3/CA3/P1.3, 6 TCK/SMCLK/UCB0STE/UCA0CLK/VREF+/VeREF+/A4/CA4/P1.4, 7 TMS/TA0.0/UCB0CLK/UCA0STE/A5/CA5/P1.5, 8 P3.1/TA1.0, 9 P3.0/TA0.2, 10 TA1.0/P2.0, 11 TA1.1/P2.1, 12 TA1.1/P2.2, 13 P3.2/TA1.1, 14 P3.3/TA1.2, 15 P3.4/TA0.0, 16 TA1.0/P2.3, 17 TA1.2/P2.4, 18 TA1.2/P2.5, 19 P3.5/TA0.1, 20 P3.6/TA0.2, 21 P3.7/TA1CLK/CAOUT, 22 TDI/TCLK/TA0.1/UCB0SOMI/UCB0SCL/A6/CA6/P1.6, 23 TDO/TDI/CAOUT/UCB0SIMO/UCB0SDA/A7/CA7/P1.7, 24 ~{{RST}/NMI/SBWTDIO}, 25 SBWTCK/TEST, 26 XOUT/P2.7, 27 TA0.1/XIN/P2.6, 28 DVSS

## MSP430G2453IRHB32
designator *  value MSP430G2453IRHB32  Reference: U
8kB Flash, 512B RAM, QFN-32; ki_keywords: TI MSP430 16-bit mixed signal microcontroller; ki_fp_filters: Texas*VQFN*1EP*5x5mm*P0.5mm*; Footprint: Package_DFN_QFN:Texas_RHB0032E_VQFN-32-1EP_5x5mm_P0.5mm_EP3.45x3.45mm; Datasheet: http://www.ti.com/lit/ds/symlink/msp430g2453.pdf; Description_: 8kB Flash, 512B RAM, QFN-32
pins: 1 TA0.0/UCA0RXD/UCA0SOMI/A1/CA1/P1.1, 2 TA0.1/UCA0TXD/UCA0SIMO/A2/CA2/P1.2, 3 ADC10CLK/CAOUT/VREF-/VeREF-/A3/CA3/P1.3, 4 TCK/SMCLK/UCB0STE/UCA0CLK/VREF+/VeREF+/A4/CA4/P1.4, 5 TMS/TA0.0/UCB0CLK/UCA0STE/A5/CA5/P1.5, 6 P3.1/TA1.0, 7 P3.0/TA0.2, 9 TA1.0/P2.0, 10 TA1.1/P2.1, 11 TA1.1/P2.2, 12 P3.2/TA1.1, 13 P3.3/TA1.2, 14 P3.4/TA0.0, 15 TA1.0/P2.3, 16 TA1.2/P2.4, 17 TA1.2/P2.5, 18 P3.5/TA0.1, 19 P3.6/TA0.2, 20 P3.7/TA1CLK/CAOUT, 21 TDI/TCLK/TA0.1/UCB0SOMI/UCB0SCL/A6/CA6/P1.6, 22 TDO/TDI/CAOUT/UCB0SIMO/UCB0SDA/A7/CA7/P1.7, 23 ~{{RST}/NMI/SBWTDIO}, 24 SBWTCK/TEST, 25 XOUT/P2.7, 26 TA0.1/XIN/P2.6, 27 AVSS, 28 DVSS, 29 AVCC, 30 DVCC, 31 TA0CLK/ACLK/A0/CA0/P1.0

## MSP430G2513IN20
designator *  value MSP430G2513IN20  Reference: U
16kB Flash, 512B RAM, DIP-20; ki_keywords: TI MSP430 16-bit mixed signal microcontroller; ki_fp_filters: DIP*W7.62mm*; Footprint: Package_DIP:DIP-20_W7.62mm; Datasheet: http://www.ti.com/lit/ds/symlink/msp430g2513.pdf; Description_: 16kB Flash, 512B RAM, DIP-20
pins: 1 DVCC, 2 TA0CLK/ACLK/CA0/P1.0, 3 UCA0RXD/UCA0SOMI/TA0.0/CA1/P1.1, 4 UCA0TXD/UCA0SIMO/TA0.1/CA2/P1.2, 5 CAOUT/CA3/P1.3, 6 TCK/SMCLK/UCB0STE/UCA0CLK/CA4/P1.4, 7 TMS/UCB0CLK/UCA0STE/TA0.0/CA5/P1.5, 8 P2.0/TA1.0, 9 P2.1/TA1.1, 10 P2.2/TA1.1, 11 P2.3/TA1.0, 12 P2.4/TA1.2, 13 P2.5/TA1.2, 14 TDI/TCLK/UCB0SOMI/UCB0SCL/TA0.1/CA6/P1.6, 15 TDO/TDI/UCB0SIMO/UCB0SDA/CAOUT/CA7/P1.7, 16 ~{{RST}/NMI/SBWTDIO}, 17 TEST/SBWTCK, 18 P2.7/XOUT, 19 P2.6/XIN/TA0.1, 20 DVSS

## MSP430G2513IPW20
designator *  value MSP430G2513IPW20  Reference: U
16kB Flash, 512B RAM, TSSOP-20; ki_keywords: TI MSP430 16-bit mixed signal microcontroller; ki_fp_filters: TSSOP*4.4x6.5mm*P0.65mm*; Footprint: Package_SO:TSSOP-20_4.4x6.5mm_P0.65mm; Datasheet: http://www.ti.com/lit/ds/symlink/msp430g2513.pdf; Description_: 16kB Flash, 512B RAM, TSSOP-20
pins: 1 DVCC, 2 TA0CLK/ACLK/CA0/P1.0, 3 UCA0RXD/UCA0SOMI/TA0.0/CA1/P1.1, 4 UCA0TXD/UCA0SIMO/TA0.1/CA2/P1.2, 5 CAOUT/CA3/P1.3, 6 TCK/SMCLK/UCB0STE/UCA0CLK/CA4/P1.4, 7 TMS/UCB0CLK/UCA0STE/TA0.0/CA5/P1.5, 8 P2.0/TA1.0, 9 P2.1/TA1.1, 10 P2.2/TA1.1, 11 P2.3/TA1.0, 12 P2.4/TA1.2, 13 P2.5/TA1.2, 14 TDI/TCLK/UCB0SOMI/UCB0SCL/TA0.1/CA6/P1.6, 15 TDO/TDI/UCB0SIMO/UCB0SDA/CAOUT/CA7/P1.7, 16 ~{{RST}/NMI/SBWTDIO}, 17 TEST/SBWTCK, 18 P2.7/XOUT, 19 P2.6/XIN/TA0.1, 20 DVSS

## MSP430G2513IPW28
designator *  value MSP430G2513IPW28  Reference: U
16kB Flash, 512B RAM, TSSOP-28; ki_keywords: TI MSP430 16-bit mixed signal microcontroller; ki_fp_filters: TSSOP*4.4x9.7mm*P0.65mm*; Footprint: Package_SO:TSSOP-28_4.4x9.7mm_P0.65mm; Datasheet: http://www.ti.com/lit/ds/symlink/msp430g2513.pdf; Description_: 16kB Flash, 512B RAM, TSSOP-28
pins: 1 DVCC, 2 TA0CLK/ACLK/CA0/P1.0, 3 TA0.0/UCA0RXD/UCA0SOMI/CA1/P1.1, 4 TA0.1/UCA0TXD/UCA0SIMO/CA2/P1.2, 5 CAOUT/CA3/P1.3, 6 TCK/SMCLK/UCB0STE/UCA0CLK/CA4/P1.4, 7 TMS/TA0.0/UCB0CLK/UCA0STE/CA5/P1.5, 8 P3.1/TA1.0, 9 P3.0/TA0.2, 10 TA1.0/P2.0, 11 TA1.1/P2.1, 12 TA1.1/P2.2, 13 P3.2/TA1.1, 14 P3.3/TA1.2, 15 P3.4/TA0.0, 16 TA1.0/P2.3, 17 TA1.2/P2.4, 18 TA1.2/P2.5, 19 P3.5/TA0.1, 20 P3.6/TA0.2, 21 P3.7/TA1CLK/CAOUT, 22 TDI/TCLK/TA0.1/UCB0SOMI/UCB0SCL/CA6/P1.6, 23 TDO/TDI/CAOUT/UCB0SIMO/UCB0SDA/CA7/P1.7, 24 ~{{RST}/NMI/SBWTDIO}, 25 SBWTCK/TEST, 26 XOUT/P2.7, 27 TA0.1/XIN/P2.6, 28 DVSS

## MSP430G2513IRHB32
designator *  value MSP430G2513IRHB32  Reference: U
16kB Flash, 512B RAM, QFN-32; ki_keywords: TI MSP430 16-bit mixed signal microcontroller; ki_fp_filters: Texas*VQFN*1EP*5x5mm*P0.5mm*; Footprint: Package_DFN_QFN:Texas_RHB0032E_VQFN-32-1EP_5x5mm_P0.5mm_EP3.45x3.45mm; Datasheet: http://www.ti.com/lit/ds/symlink/msp430g2513.pdf; Description_: 16kB Flash, 512B RAM, QFN-32
pins: 1 TA0.0/UCA0RXD/UCA0SOMI/CA1/P1.1, 2 TA0.1/UCA0TXD/UCA0SIMO/CA2/P1.2, 3 CAOUT/CA3/P1.3, 4 TCK/SMCLK/UCB0STE/UCA0CLK/CA4/P1.4, 5 TMS/TA0.0/UCB0CLK/UCA0STE/CA5/P1.5, 6 P3.1/TA1.0, 7 P3.0/TA0.2, 9 TA1.0/P2.0, 10 TA1.1/P2.1, 11 TA1.1/P2.2, 12 P3.2/TA1.1, 13 P3.3/TA1.2, 14 P3.4/TA0.0, 15 TA1.0/P2.3, 16 TA1.2/P2.4, 17 TA1.2/P2.5, 18 P3.5/TA0.1, 19 P3.6/TA0.2, 20 P3.7/TA1CLK/CAOUT, 21 TDI/TCLK/TA0.1/UCB0SOMI/UCB0SCL/CA6/P1.6, 22 TDO/TDI/CAOUT/UCB0SIMO/UCB0SDA/CA7/P1.7, 23 ~{{RST}/NMI/SBWTDIO}, 24 SBWTCK/TEST, 25 XOUT/P2.7, 26 TA0.1/XIN/P2.6, 27 AVSS, 28 DVSS, 29 AVCC, 30 DVCC, 31 TA0CLK/ACLK/CA0/P1.0

## MSP430G2533IN20
designator *  value MSP430G2533IN20  Reference: U
16kB Flash, 512B RAM, DIP-20; ki_keywords: TI MSP430 16-bit mixed signal microcontroller; ki_fp_filters: DIP*W7.62mm*; Footprint: Package_DIP:DIP-20_W7.62mm; Datasheet: http://www.ti.com/lit/ds/symlink/msp430g2533.pdf; Description_: 16kB Flash, 512B RAM, DIP-20
pins: 1 DVCC, 2 TA0CLK/ACLK/CA0/A0/P1.0, 3 TA0.0/UCA0RXD/UCA0SOMI/A1/P1.1, 4 TA0.1/UCA0TXD/UCA0SIMO/A2/P1.2, 5 ADC10CLK/VREF-/VeREF-/A3/P1.3, 6 TCK/SMCLK/UCB0STE/UCA0CLK/VREF+/VeREF+/A4/P1.4, 7 TMS/TA0.0/UCB0CLK/UCA0STE/A5/P1.5, 8 P2.0/TA1.0, 9 P2.1/TA1.1, 10 P2.2/TA1.1, 11 P2.3/TA1.0, 12 P2.4/TA1.2, 13 P2.5/TA1.2, 14 TDI/TCLK/TA0.1/UCB0SOMI/UCB0SCL/A6/P1.6, 15 TDO/TDI/UCB0SIMO/UCB0SDA/A7/P1.7, 16 ~{{RST}/NMI/SBWTDIO}, 17 TEST/SBWTCK, 18 P2.7/XOUT, 19 P2.6/XIN/TA0.1, 20 DVSS

## MSP430G2533IPW20
designator *  value MSP430G2533IPW20  Reference: U
16kB Flash, 512B RAM, TSSOP-20; ki_keywords: TI MSP430 16-bit mixed signal microcontroller; ki_fp_filters: TSSOP*4.4x6.5mm*P0.65mm*; Footprint: Package_SO:TSSOP-20_4.4x6.5mm_P0.65mm; Datasheet: http://www.ti.com/lit/ds/symlink/msp430g2533.pdf; Description_: 16kB Flash, 512B RAM, TSSOP-20
pins: 1 DVCC, 2 TA0CLK/ACLK/CA0/A0/P1.0, 3 TA0.0/UCA0RXD/UCA0SOMI/A1/P1.1, 4 TA0.1/UCA0TXD/UCA0SIMO/A2/P1.2, 5 ADC10CLK/VREF-/VeREF-/A3/P1.3, 6 TCK/SMCLK/UCB0STE/UCA0CLK/VREF+/VeREF+/A4/P1.4, 7 TMS/TA0.0/UCB0CLK/UCA0STE/A5/P1.5, 8 P2.0/TA1.0, 9 P2.1/TA1.1, 10 P2.2/TA1.1, 11 P2.3/TA1.0, 12 P2.4/TA1.2, 13 P2.5/TA1.2, 14 TDI/TCLK/TA0.1/UCB0SOMI/UCB0SCL/A6/P1.6, 15 TDO/TDI/UCB0SIMO/UCB0SDA/A7/P1.7, 16 ~{{RST}/NMI/SBWTDIO}, 17 TEST/SBWTCK, 18 P2.7/XOUT, 19 P2.6/XIN/TA0.1, 20 DVSS

## MSP430G2533IPW28
designator *  value MSP430G2533IPW28  Reference: U
16kB Flash, 512B RAM, TSSOP-28; ki_keywords: TI MSP430 16-bit mixed signal microcontroller; ki_fp_filters: TSSOP*4.4x9.7mm*P0.65mm*; Footprint: Package_SO:TSSOP-28_4.4x9.7mm_P0.65mm; Datasheet: http://www.ti.com/lit/ds/symlink/msp430g2533.pdf; Description_: 16kB Flash, 512B RAM, TSSOP-28
pins: 1 DVCC, 2 TA0CLK/ACLK/CA0/A0/P1.0, 3 TA0.0/UCA0RXD/UCA0SOMI/A1/P1.1, 4 TA0.1/UCA0TXD/UCA0SIMO/A2/P1.2, 5 ADC10CLK/VREF-/VeREF-/A3/P1.3, 6 TCK/SMCLK/UCB0STE/UCA0CLK/VREF+/VeREF+/A4/P1.4, 7 TMS/TA0.0/UCB0CLK/UCA0STE/A5/P1.5, 8 P3.1/TA1.0, 9 P3.0/TA0.2, 10 TA1.0/P2.0, 11 TA1.1/P2.1, 12 TA1.1/P2.2, 13 P3.2/TA1.1, 14 P3.3/TA1.2, 15 P3.4/TA0.0, 16 TA1.0/P2.3, 17 TA1.2/P2.4, 18 TA1.2/P2.5, 19 P3.5/TA0.1, 20 P3.6/TA0.2, 21 P3.7/TA1CLK, 22 TDI/TCLK/TA0.1/UCB0SOMI/UCB0SCL/A6/P1.6, 23 TDO/TDI/UCB0SIMO/UCB0SDA/A7/P1.7, 24 ~{{RST}/NMI/SBWTDIO}, 25 TEST/SBWTCK, 26 XOUT/P2.7, 27 TA0.1/XIN/P2.6, 28 DVSS

## MSP430G2533IRHB32
designator *  value MSP430G2533IRHB32  Reference: U
16kB Flash, 512B RAM, QFN-32; ki_keywords: TI MSP430 16-bit mixed signal microcontroller; ki_fp_filters: Texas*VQFN*1EP*5x5mm*P0.5mm*; Footprint: Package_DFN_QFN:Texas_RHB0032E_VQFN-32-1EP_5x5mm_P0.5mm_EP3.45x3.45mm; Datasheet: http://www.ti.com/lit/ds/symlink/msp430g2533.pdf; Description_: 16kB Flash, 512B RAM, QFN-32
pins: 1 TA0.0/UCA0RXD/UCA0SOMI/A1/P1.1, 2 TA0.1/UCA0TXD/UCA0SIMO/A2/P1.2, 3 ADC10CLK/VREF-/VeREF-/A3/P1.3, 4 TCK/SMCLK/UCB0STE/UCA0CLK/VREF+/VeREF+/A4/P1.4, 5 TMS/TA0.0/UCB0CLK/UCA0STE/A5/P1.5, 6 P3.1/TA1.0, 7 P3.0/TA0.2, 9 TA1.0/P2.0, 10 TA1.1/P2.1, 11 TA1.1/P2.2, 12 P3.2/TA1.1, 13 P3.3/TA1.2, 14 P3.4/TA0.0, 15 TA1.0/P2.3, 16 TA1.2/P2.4, 17 TA1.2/P2.5, 18 P3.5/TA0.1, 19 P3.6/TA0.2, 20 P3.7/TA1CLK, 21 TDI/TCLK/TA0.1/UCB0SOMI/UCB0SCL/A6/P1.6, 22 TDO/TDI/UCB0SIMO/UCB0SDA/A7/P1.7, 23 ~{{RST}/NMI/SBWTDIO}, 24 TEST/SBWTCK, 25 XOUT/P2.7, 26 TA0.1/XIN/P2.6, 27 AVSS, 28 DVSS, 29 AVCC, 30 DVCC, 31 TA0CLK/ACLK/CA0/A0/P1.0

## MSP430G2544IDA38
designator *  value MSP430G2544IDA38  Reference: U
16kB + 256B Flash, 512B RAM, TSSOP-38; ki_keywords: TI MSP430 16-bit mixed signal microcontroller; ki_fp_filters: TSSOP*6.1x12.5mm*P0.65mm*; Footprint: Package_SO:TSSOP-38_6.1x12.5mm_P0.65mm; Datasheet: http://www.ti.com/lit/ds/symlink/msp430g2544.pdf; Description_: 16kB + 256B Flash, 512B RAM, TSSOP-38
pins: 1 SBWTCK/TEST, 2 DVCC, 3 Rosc/P2.5, 4 DVSS, 5 XOUT/P2.7, 6 XIN/P2.6, 7 ~{{RST}/NMI/SBWTDIO}, 8 ACLK/A0/P2.0, 9 TAINCLK/SMCLK/A1/P2.1, 10 TA0/A2/P2.2, 11 P3.0/A5/UCB0STE/UCA0CLK, 12 P3.1/UCB0SIMO/UCB0SDA, 13 P3.2/UCB0SOMI/UCB0SCL, 14 P3.3/UCB0CLK/UCA0STE, 15 AVSS, 16 AVCC, 17 P4.0/TB0, 18 P4.1/TB1, 19 P4.2/TB2, 20 P4.3/A12/TB0, 21 P4.4/A13/TB1, 22 P4.5/A14/TB2, 23 P4.6/A15/TBOUTH, 24 P4.7/TBCLK, 25 P3.4/UCA0TXD/UCA0SIMO, 26 P3.5/UCA0RXD/UCA0SOMI, 27 P3.6/A6, 28 P3.7/A7, 29 TA1/VREF-/VeREF-/A3/P2.3, 30 TA2/VREF+/VeREF+/A4/P2.4, 31 TACLK/ADC10CLK/P1.0, 32 TA0/P1.1, 33 TA1/P1.2, 34 TA2/P1.3, 35 TCK/SMCLK/P1.4, 36 TMS/TA0/P1.5, 37 TDI/TCLK/TA1/P1.6, 38 TDO/TDI/TA2/P1.7

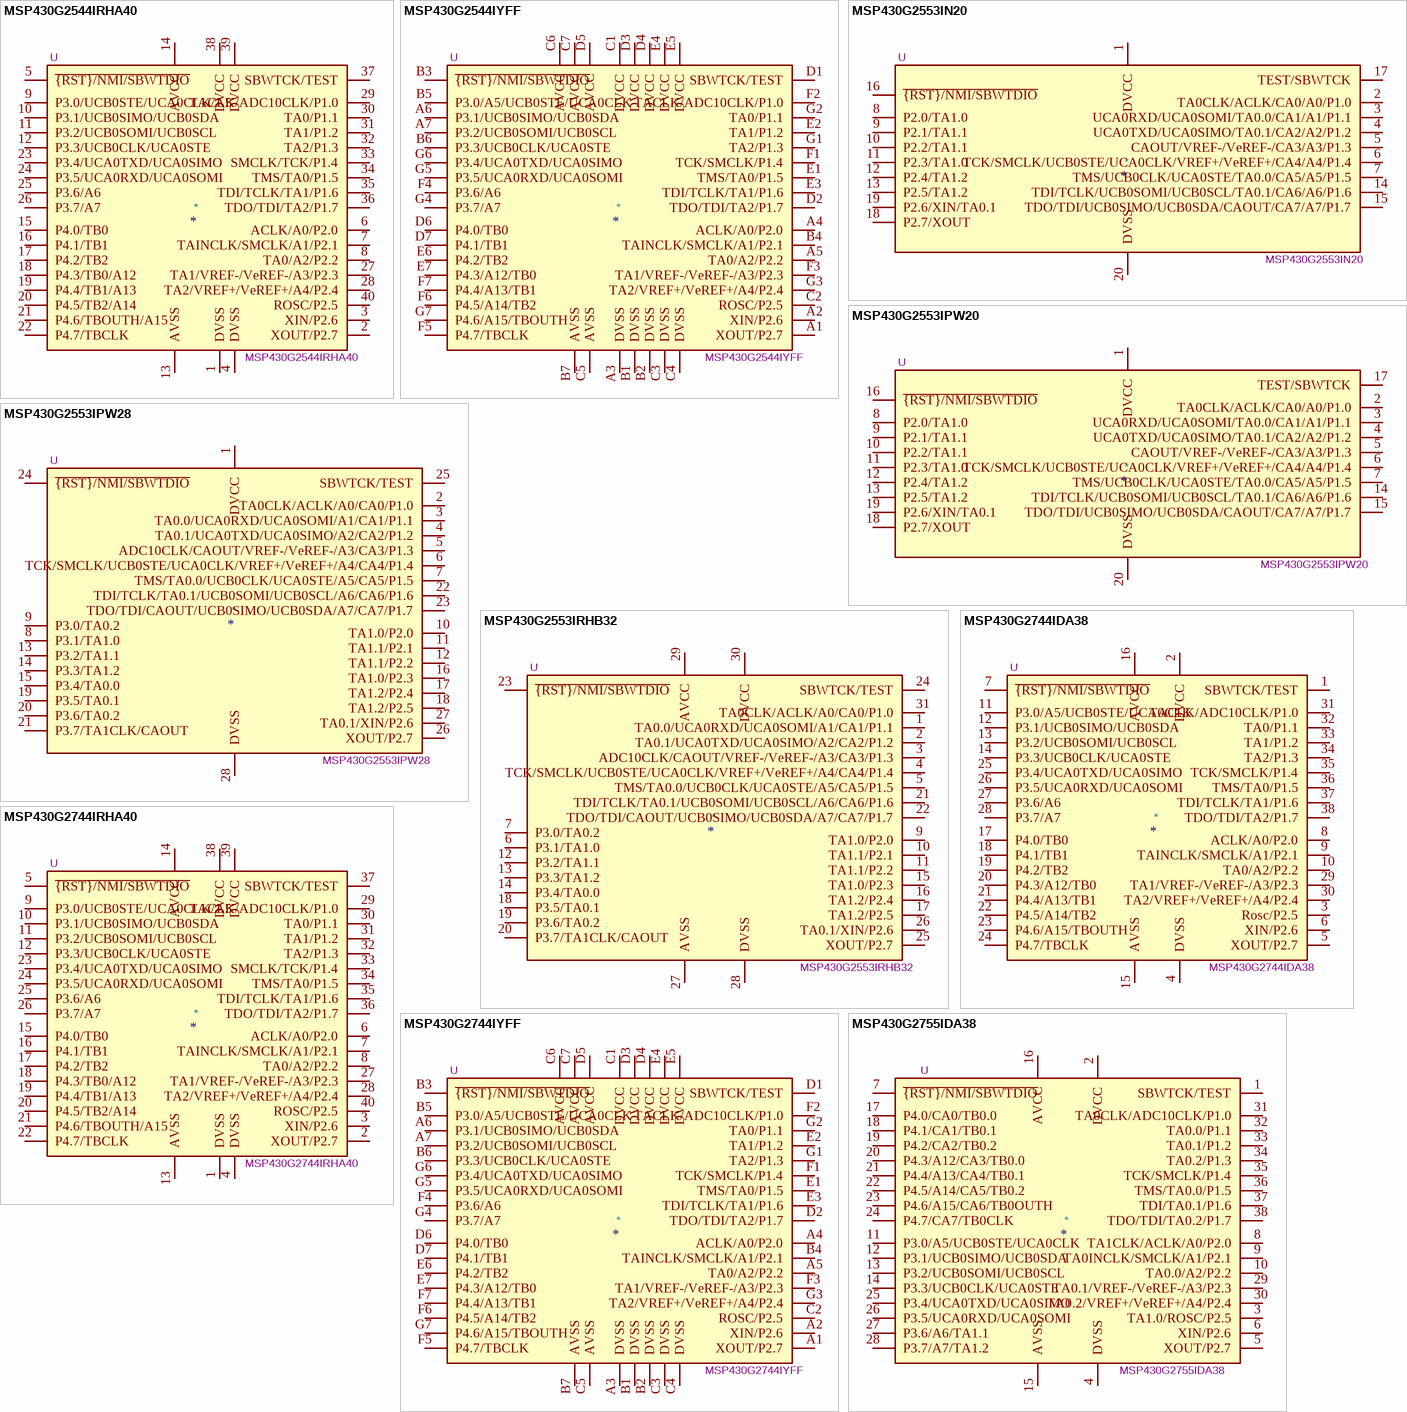
[diagram p33: symbols MSP430G2544IRHA40 to MSP430G2755IDA38]

## MSP430G2544IRHA40
designator *  value MSP430G2544IRHA40  Reference: U
16kB + 256B Flash, 512B RAM, QFN-40; ki_keywords: TI MSP430 16-bit mixed signal microcontroller; ki_fp_filters: Texas*RHA0040B*; Footprint: Package_DFN_QFN:Texas_RHA0040B_VQFN-40-1EP_6x6mm_P0.5mm_EP4.15x4.15mm; Datasheet: http://www.ti.com/lit/ds/symlink/msp430g2544.pdf; Description_: 16kB + 256B Flash, 512B RAM, QFN-40
pins: 1 DVSS, 2 XOUT/P2.7, 3 XIN/P2.6, 4 DVSS, 5 ~{{RST}/NMI/SBWTDIO}, 6 ACLK/A0/P2.0, 7 TAINCLK/SMCLK/A1/P2.1, 8 TA0/A2/P2.2, 9 P3.0/UCB0STE/UCA0CLK/A5, 10 P3.1/UCB0SIMO/UCB0SDA, 11 P3.2/UCB0SOMI/UCB0SCL, 12 P3.3/UCB0CLK/UCA0STE, 13 AVSS, 14 AVCC, 15 P4.0/TB0, 16 P4.1/TB1, 17 P4.2/TB2, 18 P4.3/TB0/A12, 19 P4.4/TB1/A13, 20 P4.5/TB2/A14, 21 P4.6/TBOUTH/A15, 22 P4.7/TBCLK, 23 P3.4/UCA0TXD/UCA0SIMO, 24 P3.5/UCA0RXD/UCA0SOMI, 25 P3.6/A6, 26 P3.7/A7, 27 TA1/VREF-/VeREF-/A3/P2.3, 28 TA2/VREF+/VeREF+/A4/P2.4, 29 TACLK/ADC10CLK/P1.0, 30 TA0/P1.1, 31 TA1/P1.2, 32 TA2/P1.3, 33 SMCLK/TCK/P1.4, 34 TMS/TA0/P1.5, 35 TDI/TCLK/TA1/P1.6, 36 TDO/TDI/TA2/P1.7, 37 SBWTCK/TEST, 38 DVCC, 39 DVCC, 40 ROSC/P2.5

## MSP430G2544IYFF
designator *  value MSP430G2544IYFF  Reference: U
16kB + 256B Flash, 512B RAM, BGA-49; ki_keywords: TI MSP430 16-bit mixed signal microcontroller; ki_fp_filters: Texas*DSBGA*3.33x3.488mm*Layout7x7*P0.4mm*; Footprint: Package_BGA:Texas_DSBGA-49_3.33x3.488mm_Layout7x7_P0.4mm; Datasheet: http://www.ti.com/lit/ds/symlink/msp430g2544.pdf; Description_: 16kB + 256B Flash, 512B RAM, BGA-49
pins: A1 XOUT/P2.7, A2 XIN/P2.6, A3 DVSS, A4 ACLK/A0/P2.0, A5 TA0/A2/P2.2, A6 P3.1/UCB0SIMO/UCB0SDA, A7 P3.2/UCB0SOMI/UCB0SCL, B1 DVSS, B2 DVSS, B3 ~{{RST}/NMI/SBWTDIO}, B4 TAINCLK/SMCLK/A1/P2.1, B5 P3.0/A5/UCB0STE/UCA0CLK, B6 P3.3/UCB0CLK/UCA0STE, B7 AVSS, C1 DVCC, C2 ROSC/P2.5, C3 DVSS, C4 DVSS, C5 AVSS, C6 AVCC, C7 AVCC, D1 SBWTCK/TEST, D2 TDO/TDI/TA2/P1.7, D3 DVCC, D4 DVCC, D5 AVCC, D6 P4.0/TB0, D7 P4.1/TB1, E1 TMS/TA0/P1.5, E2 TA1/P1.2, E3 TDI/TCLK/TA1/P1.6, E4 DVCC, E5 DVCC, E6 P4.2/TB2, E7 P4.3/A12/TB0, F1 TCK/SMCLK/P1.4, F2 TACLK/ADC10CLK/P1.0, F3 TA1/VREF-/VeREF-/A3/P2.3, F4 P3.6/A6, F5 P4.7/TBCLK, F6 P4.5/A14/TB2, F7 P4.4/A13/TB1, G1 TA2/P1.3, G2 TA0/P1.1, G3 TA2/VREF+/VeREF+/A4/P2.4, G4 P3.7/A7, G5 P3.5/UCA0RXD/UCA0SOMI, G6 P3.4/UCA0TXD/UCA0SIMO, G7 P4.6/A15/TBOUTH

## MSP430G2553IN20
designator *  value MSP430G2553IN20  Reference: U
16kB Flash, 512B RAM, DIP-20; ki_keywords: TI MSP430 16-bit mixed signal microcontroller; ki_fp_filters: DIP*W7.62mm*; Footprint: Package_DIP:DIP-20_W7.62mm; Datasheet: http://www.ti.com/lit/ds/symlink/msp430g2553.pdf; Description_: 16kB Flash, 512B RAM, DIP-20
pins: 1 DVCC, 2 TA0CLK/ACLK/CA0/A0/P1.0, 3 UCA0RXD/UCA0SOMI/TA0.0/CA1/A1/P1.1, 4 UCA0TXD/UCA0SIMO/TA0.1/CA2/A2/P1.2, 5 CAOUT/VREF-/VeREF-/CA3/A3/P1.3, 6 TCK/SMCLK/UCB0STE/UCA0CLK/VREF+/VeREF+/CA4/A4/P1.4, 7 TMS/UCB0CLK/UCA0STE/TA0.0/CA5/A5/P1.5, 8 P2.0/TA1.0, 9 P2.1/TA1.1, 10 P2.2/TA1.1, 11 P2.3/TA1.0, 12 P2.4/TA1.2, 13 P2.5/TA1.2, 14 TDI/TCLK/UCB0SOMI/UCB0SCL/TA0.1/CA6/A6/P1.6, 15 TDO/TDI/UCB0SIMO/UCB0SDA/CAOUT/CA7/A7/P1.7, 16 ~{{RST}/NMI/SBWTDIO}, 17 TEST/SBWTCK, 18 P2.7/XOUT, 19 P2.6/XIN/TA0.1, 20 DVSS

## MSP430G2553IPW20
designator *  value MSP430G2553IPW20  Reference: U
16kB Flash, 512B RAM, TSSOP-20; ki_keywords: TI MSP430 16-bit mixed signal microcontroller; ki_fp_filters: TSSOP*4.4x6.5mm*P0.65mm*; Footprint: Package_SO:TSSOP-20_4.4x6.5mm_P0.65mm; Datasheet: http://www.ti.com/lit/ds/symlink/msp430g2553.pdf; Description_: 16kB Flash, 512B RAM, TSSOP-20
pins: 1 DVCC, 2 TA0CLK/ACLK/CA0/A0/P1.0, 3 UCA0RXD/UCA0SOMI/TA0.0/CA1/A1/P1.1, 4 UCA0TXD/UCA0SIMO/TA0.1/CA2/A2/P1.2, 5 CAOUT/VREF-/VeREF-/CA3/A3/P1.3, 6 TCK/SMCLK/UCB0STE/UCA0CLK/VREF+/VeREF+/CA4/A4/P1.4, 7 TMS/UCB0CLK/UCA0STE/TA0.0/CA5/A5/P1.5, 8 P2.0/TA1.0, 9 P2.1/TA1.1, 10 P2.2/TA1.1, 11 P2.3/TA1.0, 12 P2.4/TA1.2, 13 P2.5/TA1.2, 14 TDI/TCLK/UCB0SOMI/UCB0SCL/TA0.1/CA6/A6/P1.6, 15 TDO/TDI/UCB0SIMO/UCB0SDA/CAOUT/CA7/A7/P1.7, 16 ~{{RST}/NMI/SBWTDIO}, 17 TEST/SBWTCK, 18 P2.7/XOUT, 19 P2.6/XIN/TA0.1, 20 DVSS

## MSP430G2553IPW28
designator *  value MSP430G2553IPW28  Reference: U
16kB Flash, 512B RAM, TSSOP-28; ki_keywords: TI MSP430 16-bit mixed signal microcontroller; ki_fp_filters: TSSOP*4.4x9.7mm*P0.65mm*; Footprint: Package_SO:TSSOP-28_4.4x9.7mm_P0.65mm; Datasheet: http://www.ti.com/lit/ds/symlink/msp430g2553.pdf; Description_: 16kB Flash, 512B RAM, TSSOP-28
pins: 1 DVCC, 2 TA0CLK/ACLK/A0/CA0/P1.0, 3 TA0.0/UCA0RXD/UCA0SOMI/A1/CA1/P1.1, 4 TA0.1/UCA0TXD/UCA0SIMO/A2/CA2/P1.2, 5 ADC10CLK/CAOUT/VREF-/VeREF-/A3/CA3/P1.3, 6 TCK/SMCLK/UCB0STE/UCA0CLK/VREF+/VeREF+/A4/CA4/P1.4, 7 TMS/TA0.0/UCB0CLK/UCA0STE/A5/CA5/P1.5, 8 P3.1/TA1.0, 9 P3.0/TA0.2, 10 TA1.0/P2.0, 11 TA1.1/P2.1, 12 TA1.1/P2.2, 13 P3.2/TA1.1, 14 P3.3/TA1.2, 15 P3.4/TA0.0, 16 TA1.0/P2.3, 17 TA1.2/P2.4, 18 TA1.2/P2.5, 19 P3.5/TA0.1, 20 P3.6/TA0.2, 21 P3.7/TA1CLK/CAOUT, 22 TDI/TCLK/TA0.1/UCB0SOMI/UCB0SCL/A6/CA6/P1.6, 23 TDO/TDI/CAOUT/UCB0SIMO/UCB0SDA/A7/CA7/P1.7, 24 ~{{RST}/NMI/SBWTDIO}, 25 SBWTCK/TEST, 26 XOUT/P2.7, 27 TA0.1/XIN/P2.6, 28 DVSS

## MSP430G2553IRHB32
designator *  value MSP430G2553IRHB32  Reference: U
16kB Flash, 512B RAM, QFN-32; ki_keywords: TI MSP430 16-bit mixed signal microcontroller; ki_fp_filters: Texas*VQFN*1EP*5x5mm*P0.5mm*; Footprint: Package_DFN_QFN:Texas_RHB0032E_VQFN-32-1EP_5x5mm_P0.5mm_EP3.45x3.45mm; Datasheet: http://www.ti.com/lit/ds/symlink/msp430g2553.pdf; Description_: 16kB Flash, 512B RAM, QFN-32
pins: 1 TA0.0/UCA0RXD/UCA0SOMI/A1/CA1/P1.1, 2 TA0.1/UCA0TXD/UCA0SIMO/A2/CA2/P1.2, 3 ADC10CLK/CAOUT/VREF-/VeREF-/A3/CA3/P1.3, 4 TCK/SMCLK/UCB0STE/UCA0CLK/VREF+/VeREF+/A4/CA4/P1.4, 5 TMS/TA0.0/UCB0CLK/UCA0STE/A5/CA5/P1.5, 6 P3.1/TA1.0, 7 P3.0/TA0.2, 9 TA1.0/P2.0, 10 TA1.1/P2.1, 11 TA1.1/P2.2, 12 P3.2/TA1.1, 13 P3.3/TA1.2, 14 P3.4/TA0.0, 15 TA1.0/P2.3, 16 TA1.2/P2.4, 17 TA1.2/P2.5, 18 P3.5/TA0.1, 19 P3.6/TA0.2, 20 P3.7/TA1CLK/CAOUT, 21 TDI/TCLK/TA0.1/UCB0SOMI/UCB0SCL/A6/CA6/P1.6, 22 TDO/TDI/CAOUT/UCB0SIMO/UCB0SDA/A7/CA7/P1.7, 23 ~{{RST}/NMI/SBWTDIO}, 24 SBWTCK/TEST, 25 XOUT/P2.7, 26 TA0.1/XIN/P2.6, 27 AVSS, 28 DVSS, 29 AVCC, 30 DVCC, 31 TA0CLK/ACLK/A0/CA0/P1.0

## MSP430G2744IDA38
designator *  value MSP430G2744IDA38  Reference: U
32kB + 256B Flash, 1kB RAM, TSSOP-38; ki_keywords: TI MSP430 16-bit mixed signal microcontroller; ki_fp_filters: TSSOP*6.1x12.5mm*P0.65mm*; Footprint: Package_SO:TSSOP-38_6.1x12.5mm_P0.65mm; Datasheet: http://www.ti.com/lit/ds/symlink/msp430g2744.pdf; Description_: 32kB + 256B Flash, 1kB RAM, TSSOP-38
pins: 1 SBWTCK/TEST, 2 DVCC, 3 Rosc/P2.5, 4 DVSS, 5 XOUT/P2.7, 6 XIN/P2.6, 7 ~{{RST}/NMI/SBWTDIO}, 8 ACLK/A0/P2.0, 9 TAINCLK/SMCLK/A1/P2.1, 10 TA0/A2/P2.2, 11 P3.0/A5/UCB0STE/UCA0CLK, 12 P3.1/UCB0SIMO/UCB0SDA, 13 P3.2/UCB0SOMI/UCB0SCL, 14 P3.3/UCB0CLK/UCA0STE, 15 AVSS, 16 AVCC, 17 P4.0/TB0, 18 P4.1/TB1, 19 P4.2/TB2, 20 P4.3/A12/TB0, 21 P4.4/A13/TB1, 22 P4.5/A14/TB2, 23 P4.6/A15/TBOUTH, 24 P4.7/TBCLK, 25 P3.4/UCA0TXD/UCA0SIMO, 26 P3.5/UCA0RXD/UCA0SOMI, 27 P3.6/A6, 28 P3.7/A7, 29 TA1/VREF-/VeREF-/A3/P2.3, 30 TA2/VREF+/VeREF+/A4/P2.4, 31 TACLK/ADC10CLK/P1.0, 32 TA0/P1.1, 33 TA1/P1.2, 34 TA2/P1.3, 35 TCK/SMCLK/P1.4, 36 TMS/TA0/P1.5, 37 TDI/TCLK/TA1/P1.6, 38 TDO/TDI/TA2/P1.7

## MSP430G2744IRHA40
designator *  value MSP430G2744IRHA40  Reference: U
32kB + 256B Flash, 1kB RAM, QFN-40; ki_keywords: TI MSP430 16-bit mixed signal microcontroller; ki_fp_filters: Texas*RHA0040B*; Footprint: Package_DFN_QFN:Texas_RHA0040B_VQFN-40-1EP_6x6mm_P0.5mm_EP4.15x4.15mm; Datasheet: http://www.ti.com/lit/ds/symlink/msp430g2744.pdf; Description_: 32kB + 256B Flash, 1kB RAM, QFN-40
pins: 1 DVSS, 2 XOUT/P2.7, 3 XIN/P2.6, 4 DVSS, 5 ~{{RST}/NMI/SBWTDIO}, 6 ACLK/A0/P2.0, 7 TAINCLK/SMCLK/A1/P2.1, 8 TA0/A2/P2.2, 9 P3.0/UCB0STE/UCA0CLK/A5, 10 P3.1/UCB0SIMO/UCB0SDA, 11 P3.2/UCB0SOMI/UCB0SCL, 12 P3.3/UCB0CLK/UCA0STE, 13 AVSS, 14 AVCC, 15 P4.0/TB0, 16 P4.1/TB1, 17 P4.2/TB2, 18 P4.3/TB0/A12, 19 P4.4/TB1/A13, 20 P4.5/TB2/A14, 21 P4.6/TBOUTH/A15, 22 P4.7/TBCLK, 23 P3.4/UCA0TXD/UCA0SIMO, 24 P3.5/UCA0RXD/UCA0SOMI, 25 P3.6/A6, 26 P3.7/A7, 27 TA1/VREF-/VeREF-/A3/P2.3, 28 TA2/VREF+/VeREF+/A4/P2.4, 29 TACLK/ADC10CLK/P1.0, 30 TA0/P1.1, 31 TA1/P1.2, 32 TA2/P1.3, 33 SMCLK/TCK/P1.4, 34 TMS/TA0/P1.5, 35 TDI/TCLK/TA1/P1.6, 36 TDO/TDI/TA2/P1.7, 37 SBWTCK/TEST, 38 DVCC, 39 DVCC, 40 ROSC/P2.5

## MSP430G2744IYFF
designator *  value MSP430G2744IYFF  Reference: U
32kB + 256B Flash, 1kB RAM, BGA-49; ki_keywords: TI MSP430 16-bit mixed signal microcontroller; ki_fp_filters: Texas*DSBGA*3.33x3.488mm*Layout7x7*P0.4mm*; Footprint: Package_BGA:Texas_DSBGA-49_3.33x3.488mm_Layout7x7_P0.4mm; Datasheet: http://www.ti.com/lit/ds/symlink/msp430g2744.pdf; Description_: 32kB + 256B Flash, 1kB RAM, BGA-49
pins: A1 XOUT/P2.7, A2 XIN/P2.6, A3 DVSS, A4 ACLK/A0/P2.0, A5 TA0/A2/P2.2, A6 P3.1/UCB0SIMO/UCB0SDA, A7 P3.2/UCB0SOMI/UCB0SCL, B1 DVSS, B2 DVSS, B3 ~{{RST}/NMI/SBWTDIO}, B4 TAINCLK/SMCLK/A1/P2.1, B5 P3.0/A5/UCB0STE/UCA0CLK, B6 P3.3/UCB0CLK/UCA0STE, B7 AVSS, C1 DVCC, C2 ROSC/P2.5, C3 DVSS, C4 DVSS, C5 AVSS, C6 AVCC, C7 AVCC, D1 SBWTCK/TEST, D2 TDO/TDI/TA2/P1.7, D3 DVCC, D4 DVCC, D5 AVCC, D6 P4.0/TB0, D7 P4.1/TB1, E1 TMS/TA0/P1.5, E2 TA1/P1.2, E3 TDI/TCLK/TA1/P1.6, E4 DVCC, E5 DVCC, E6 P4.2/TB2, E7 P4.3/A12/TB0, F1 TCK/SMCLK/P1.4, F2 TACLK/ADC10CLK/P1.0, F3 TA1/VREF-/VeREF-/A3/P2.3, F4 P3.6/A6, F5 P4.7/TBCLK, F6 P4.5/A14/TB2, F7 P4.4/A13/TB1, G1 TA2/P1.3, G2 TA0/P1.1, G3 TA2/VREF+/VeREF+/A4/P2.4, G4 P3.7/A7, G5 P3.5/UCA0RXD/UCA0SOMI, G6 P3.4/UCA0TXD/UCA0SIMO, G7 P4.6/A15/TBOUTH

## MSP430G2755IDA38
designator *  value MSP430G2755IDA38  Reference: U
32kB Flash, 4kB RAM, TSSOP-38; ki_keywords: TI MSP430 16-bit mixed signal microcontroller; ki_fp_filters: TSSOP*6.1x12.5mm*P0.65mm*; Footprint: Package_SO:TSSOP-38_6.1x12.5mm_P0.65mm; Datasheet: http://www.ti.com/lit/ds/symlink/msp430g2755.pdf; Description_: 32kB Flash, 4kB RAM, TSSOP-38
pins: 1 SBWTCK/TEST, 2 DVCC, 3 TA1.0/ROSC/P2.5, 4 DVSS, 5 XOUT/P2.7, 6 XIN/P2.6, 7 ~{{RST}/NMI/SBWTDIO}, 8 TA1CLK/ACLK/A0/P2.0, 9 TA0INCLK/SMCLK/A1/P2.1, 10 TA0.0/A2/P2.2, 11 P3.0/A5/UCB0STE/UCA0CLK, 12 P3.1/UCB0SIMO/UCB0SDA, 13 P3.2/UCB0SOMI/UCB0SCL, 14 P3.3/UCB0CLK/UCA0STE, 15 AVSS, 16 AVCC, 17 P4.0/CA0/TB0.0, 18 P4.1/CA1/TB0.1, 19 P4.2/CA2/TB0.2, 20 P4.3/A12/CA3/TB0.0, 21 P4.4/A13/CA4/TB0.1, 22 P4.5/A14/CA5/TB0.2, 23 P4.6/A15/CA6/TB0OUTH, 24 P4.7/CA7/TB0CLK, 25 P3.4/UCA0TXD/UCA0SIMO, 26 P3.5/UCA0RXD/UCA0SOMI, 27 P3.6/A6/TA1.1, 28 P3.7/A7/TA1.2, 29 TA0.1/VREF-/VeREF-/A3/P2.3, 30 TA0.2/VREF+/VeREF+/A4/P2.4, 31 TA0CLK/ADC10CLK/P1.0, 32 TA0.0/P1.1, 33 TA0.1/P1.2, 34 TA0.2/P1.3, 35 TCK/SMCLK/P1.4, 36 TMS/TA0.0/P1.5, 37 TDI/TA0.1/P1.6, 38 TDO/TDI/TA0.2/P1.7

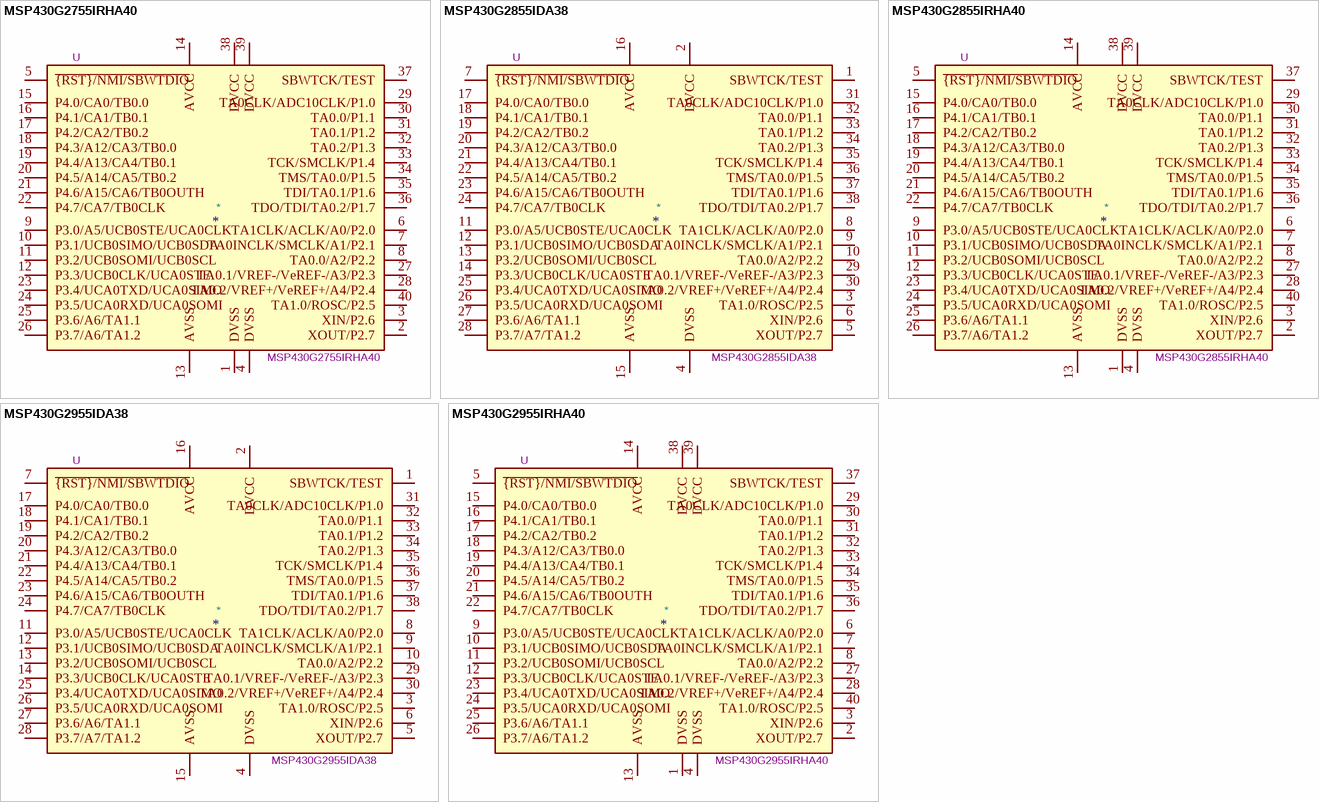
[diagram p34: symbols MSP430G2755IRHA40 to MSP430G2955IRHA40]

## MSP430G2755IRHA40
designator *  value MSP430G2755IRHA40  Reference: U
32kB Flash, 4kB RAM, QFN-40; ki_keywords: TI MSP430 16-bit mixed signal microcontroller; ki_fp_filters: Texas*RHA0040B*; Footprint: Package_DFN_QFN:Texas_RHA0040B_VQFN-40-1EP_6x6mm_P0.5mm_EP4.15x4.15mm; Datasheet: http://www.ti.com/lit/ds/symlink/msp430g2755.pdf; Description_: 32kB Flash, 4kB RAM, QFN-40
pins: 1 DVSS, 2 XOUT/P2.7, 3 XIN/P2.6, 4 DVSS, 5 ~{{RST}/NMI/SBWTDIO}, 6 TA1CLK/ACLK/A0/P2.0, 7 TA0INCLK/SMCLK/A1/P2.1, 8 TA0.0/A2/P2.2, 9 P3.0/A5/UCB0STE/UCA0CLK, 10 P3.1/UCB0SIMO/UCB0SDA, 11 P3.2/UCB0SOMI/UCB0SCL, 12 P3.3/UCB0CLK/UCA0STE, 13 AVSS, 14 AVCC, 15 P4.0/CA0/TB0.0, 16 P4.1/CA1/TB0.1, 17 P4.2/CA2/TB0.2, 18 P4.3/A12/CA3/TB0.0, 19 P4.4/A13/CA4/TB0.1, 20 P4.5/A14/CA5/TB0.2, 21 P4.6/A15/CA6/TB0OUTH, 22 P4.7/CA7/TB0CLK, 23 P3.4/UCA0TXD/UCA0SIMO, 24 P3.5/UCA0RXD/UCA0SOMI, 25 P3.6/A6/TA1.1, 26 P3.7/A6/TA1.2, 27 TA0.1/VREF-/VeREF-/A3/P2.3, 28 TA0.2/VREF+/VeREF+/A4/P2.4, 29 TA0CLK/ADC10CLK/P1.0, 30 TA0.0/P1.1, 31 TA0.1/P1.2, 32 TA0.2/P1.3, 33 TCK/SMCLK/P1.4, 34 TMS/TA0.0/P1.5, 35 TDI/TA0.1/P1.6, 36 TDO/TDI/TA0.2/P1.7, 37 SBWTCK/TEST, 38 DVCC, 39 DVCC, 40 TA1.0/ROSC/P2.5

## MSP430G2855IDA38
designator *  value MSP430G2855IDA38  Reference: U
48kB Flash, 4kB RAM, TSSOP-38; ki_keywords: TI MSP430 16-bit mixed signal microcontroller; ki_fp_filters: TSSOP*6.1x12.5mm*P0.65mm*; Footprint: Package_SO:TSSOP-38_6.1x12.5mm_P0.65mm; Datasheet: http://www.ti.com/lit/ds/symlink/msp430g2855.pdf; Description_: 48kB Flash, 4kB RAM, TSSOP-38
pins: 1 SBWTCK/TEST, 2 DVCC, 3 TA1.0/ROSC/P2.5, 4 DVSS, 5 XOUT/P2.7, 6 XIN/P2.6, 7 ~{{RST}/NMI/SBWTDIO}, 8 TA1CLK/ACLK/A0/P2.0, 9 TA0INCLK/SMCLK/A1/P2.1, 10 TA0.0/A2/P2.2, 11 P3.0/A5/UCB0STE/UCA0CLK, 12 P3.1/UCB0SIMO/UCB0SDA, 13 P3.2/UCB0SOMI/UCB0SCL, 14 P3.3/UCB0CLK/UCA0STE, 15 AVSS, 16 AVCC, 17 P4.0/CA0/TB0.0, 18 P4.1/CA1/TB0.1, 19 P4.2/CA2/TB0.2, 20 P4.3/A12/CA3/TB0.0, 21 P4.4/A13/CA4/TB0.1, 22 P4.5/A14/CA5/TB0.2, 23 P4.6/A15/CA6/TB0OUTH, 24 P4.7/CA7/TB0CLK, 25 P3.4/UCA0TXD/UCA0SIMO, 26 P3.5/UCA0RXD/UCA0SOMI, 27 P3.6/A6/TA1.1, 28 P3.7/A7/TA1.2, 29 TA0.1/VREF-/VeREF-/A3/P2.3, 30 TA0.2/VREF+/VeREF+/A4/P2.4, 31 TA0CLK/ADC10CLK/P1.0, 32 TA0.0/P1.1, 33 TA0.1/P1.2, 34 TA0.2/P1.3, 35 TCK/SMCLK/P1.4, 36 TMS/TA0.0/P1.5, 37 TDI/TA0.1/P1.6, 38 TDO/TDI/TA0.2/P1.7

## MSP430G2855IRHA40
designator *  value MSP430G2855IRHA40  Reference: U
48kB Flash, 4kB RAM, QFN-40; ki_keywords: TI MSP430 16-bit mixed signal microcontroller; ki_fp_filters: Texas*RHA0040B*; Footprint: Package_DFN_QFN:Texas_RHA0040B_VQFN-40-1EP_6x6mm_P0.5mm_EP4.15x4.15mm; Datasheet: http://www.ti.com/lit/ds/symlink/msp430g2855.pdf; Description_: 48kB Flash, 4kB RAM, QFN-40
pins: 1 DVSS, 2 XOUT/P2.7, 3 XIN/P2.6, 4 DVSS, 5 ~{{RST}/NMI/SBWTDIO}, 6 TA1CLK/ACLK/A0/P2.0, 7 TA0INCLK/SMCLK/A1/P2.1, 8 TA0.0/A2/P2.2, 9 P3.0/A5/UCB0STE/UCA0CLK, 10 P3.1/UCB0SIMO/UCB0SDA, 11 P3.2/UCB0SOMI/UCB0SCL, 12 P3.3/UCB0CLK/UCA0STE, 13 AVSS, 14 AVCC, 15 P4.0/CA0/TB0.0, 16 P4.1/CA1/TB0.1, 17 P4.2/CA2/TB0.2, 18 P4.3/A12/CA3/TB0.0, 19 P4.4/A13/CA4/TB0.1, 20 P4.5/A14/CA5/TB0.2, 21 P4.6/A15/CA6/TB0OUTH, 22 P4.7/CA7/TB0CLK, 23 P3.4/UCA0TXD/UCA0SIMO, 24 P3.5/UCA0RXD/UCA0SOMI, 25 P3.6/A6/TA1.1, 26 P3.7/A6/TA1.2, 27 TA0.1/VREF-/VeREF-/A3/P2.3, 28 TA0.2/VREF+/VeREF+/A4/P2.4, 29 TA0CLK/ADC10CLK/P1.0, 30 TA0.0/P1.1, 31 TA0.1/P1.2, 32 TA0.2/P1.3, 33 TCK/SMCLK/P1.4, 34 TMS/TA0.0/P1.5, 35 TDI/TA0.1/P1.6, 36 TDO/TDI/TA0.2/P1.7, 37 SBWTCK/TEST, 38 DVCC, 39 DVCC, 40 TA1.0/ROSC/P2.5

## MSP430G2955IDA38
designator *  value MSP430G2955IDA38  Reference: U
56kB Flash, 4kB RAM, TSSOP-38; ki_keywords: TI MSP430 16-bit mixed signal microcontroller; ki_fp_filters: TSSOP*6.1x12.5mm*P0.65mm*; Footprint: Package_SO:TSSOP-38_6.1x12.5mm_P0.65mm; Datasheet: http://www.ti.com/lit/ds/symlink/msp430g2955.pdf; Description_: 56kB Flash, 4kB RAM, TSSOP-38
pins: 1 SBWTCK/TEST, 2 DVCC, 3 TA1.0/ROSC/P2.5, 4 DVSS, 5 XOUT/P2.7, 6 XIN/P2.6, 7 ~{{RST}/NMI/SBWTDIO}, 8 TA1CLK/ACLK/A0/P2.0, 9 TA0INCLK/SMCLK/A1/P2.1, 10 TA0.0/A2/P2.2, 11 P3.0/A5/UCB0STE/UCA0CLK, 12 P3.1/UCB0SIMO/UCB0SDA, 13 P3.2/UCB0SOMI/UCB0SCL, 14 P3.3/UCB0CLK/UCA0STE, 15 AVSS, 16 AVCC, 17 P4.0/CA0/TB0.0, 18 P4.1/CA1/TB0.1, 19 P4.2/CA2/TB0.2, 20 P4.3/A12/CA3/TB0.0, 21 P4.4/A13/CA4/TB0.1, 22 P4.5/A14/CA5/TB0.2, 23 P4.6/A15/CA6/TB0OUTH, 24 P4.7/CA7/TB0CLK, 25 P3.4/UCA0TXD/UCA0SIMO, 26 P3.5/UCA0RXD/UCA0SOMI, 27 P3.6/A6/TA1.1, 28 P3.7/A7/TA1.2, 29 TA0.1/VREF-/VeREF-/A3/P2.3, 30 TA0.2/VREF+/VeREF+/A4/P2.4, 31 TA0CLK/ADC10CLK/P1.0, 32 TA0.0/P1.1, 33 TA0.1/P1.2, 34 TA0.2/P1.3, 35 TCK/SMCLK/P1.4, 36 TMS/TA0.0/P1.5, 37 TDI/TA0.1/P1.6, 38 TDO/TDI/TA0.2/P1.7

## MSP430G2955IRHA40
designator *  value MSP430G2955IRHA40  Reference: U
56kB Flash, 4kB RAM, QFN-40; ki_keywords: TI MSP430 16-bit mixed signal microcontroller; ki_fp_filters: Texas*RHA0040B*; Footprint: Package_DFN_QFN:Texas_RHA0040B_VQFN-40-1EP_6x6mm_P0.5mm_EP4.15x4.15mm; Datasheet: http://www.ti.com/lit/ds/symlink/msp430g2955.pdf; Description_: 56kB Flash, 4kB RAM, QFN-40
pins: 1 DVSS, 2 XOUT/P2.7, 3 XIN/P2.6, 4 DVSS, 5 ~{{RST}/NMI/SBWTDIO}, 6 TA1CLK/ACLK/A0/P2.0, 7 TA0INCLK/SMCLK/A1/P2.1, 8 TA0.0/A2/P2.2, 9 P3.0/A5/UCB0STE/UCA0CLK, 10 P3.1/UCB0SIMO/UCB0SDA, 11 P3.2/UCB0SOMI/UCB0SCL, 12 P3.3/UCB0CLK/UCA0STE, 13 AVSS, 14 AVCC, 15 P4.0/CA0/TB0.0, 16 P4.1/CA1/TB0.1, 17 P4.2/CA2/TB0.2, 18 P4.3/A12/CA3/TB0.0, 19 P4.4/A13/CA4/TB0.1, 20 P4.5/A14/CA5/TB0.2, 21 P4.6/A15/CA6/TB0OUTH, 22 P4.7/CA7/TB0CLK, 23 P3.4/UCA0TXD/UCA0SIMO, 24 P3.5/UCA0RXD/UCA0SOMI, 25 P3.6/A6/TA1.1, 26 P3.7/A6/TA1.2, 27 TA0.1/VREF-/VeREF-/A3/P2.3, 28 TA0.2/VREF+/VeREF+/A4/P2.4, 29 TA0CLK/ADC10CLK/P1.0, 30 TA0.0/P1.1, 31 TA0.1/P1.2, 32 TA0.2/P1.3, 33 TCK/SMCLK/P1.4, 34 TMS/TA0.0/P1.5, 35 TDI/TA0.1/P1.6, 36 TDO/TDI/TA0.2/P1.7, 37 SBWTCK/TEST, 38 DVCC, 39 DVCC, 40 TA1.0/ROSC/P2.5